# Altium schematic symbol library MCU_ST_STM32F7.SchLib: 155 symbols (part 2 of 6)
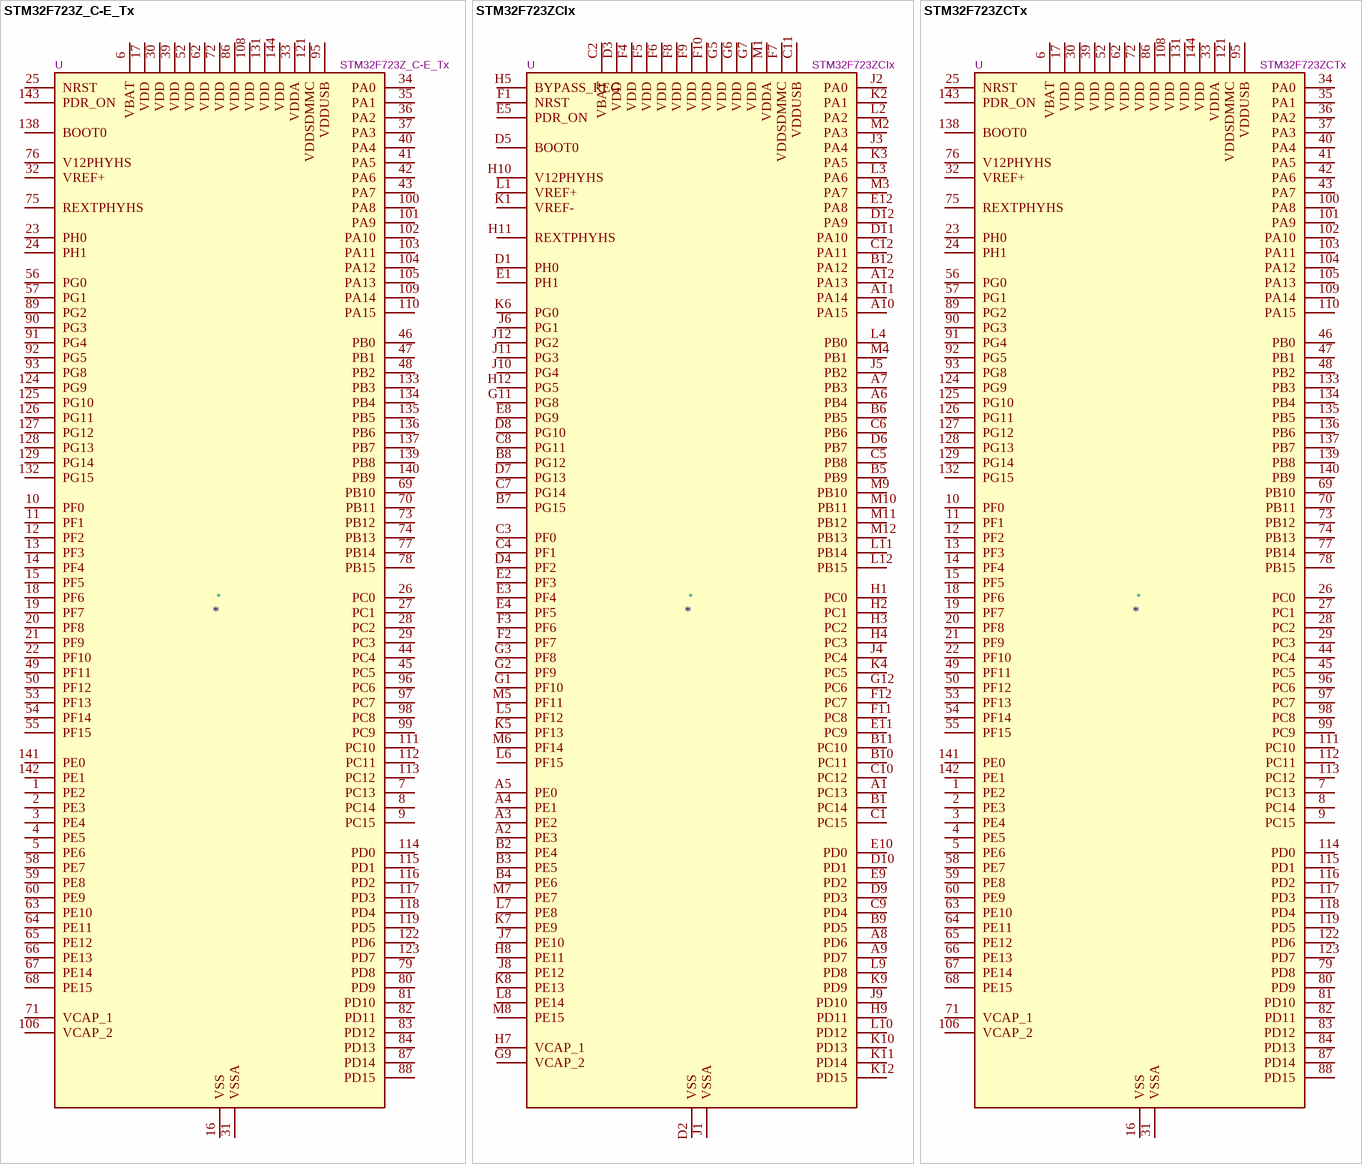
[diagram p48: symbols STM32F723Z_C-E_Tx to STM32F723ZCTx]

## STM32F723Z_C-E_Tx
designator *  value STM32F723Z_C-E_Tx  Reference: U
ki_keywords: Arm Cortex-M7 STM32F7 STM32F7x3; ki_description: STMicroelectronics Arm Cortex-M7 MCU, 256-512KB flash, 256KB RAM, 216 MHz, 1.7-3.6V, 112 GPIO, LQFP144; ki_fp_filters: LQFP*20x20mm*P0.5mm*; Footprint: Package_QFP:LQFP-144_20x20mm_P0.5mm; Datasheet: https://www.st.com/resource/en/datasheet/stm32f723zc.pdf
pins: 1 PE2, 2 PE3, 3 PE4, 4 PE5, 5 PE6, 6 VBAT, 7 PC13, 8 PC14, 9 PC15, 10 PF0, 11 PF1, 12 PF2, 13 PF3, 14 PF4, 15 PF5, 16 VSS, 17 VDD, 18 PF6, 19 PF7, 20 PF8, 21 PF9, 22 PF10, 23 PH0, 24 PH1, 25 NRST, 26 PC0, 27 PC1, 28 PC2, 29 PC3, 30 VDD, 31 VSSA, 32 VREF+, 33 VDDA, 34 PA0, 35 PA1, 36 PA2, 37 PA3, 38 VSS hidden, 39 VDD, 40 PA4, 41 PA5, 42 PA6, 43 PA7, 44 PC4, 45 PC5, 46 PB0, 47 PB1, 48 PB2, 49 PF11, 50 PF12, 51 VSS hidden, 52 VDD, 53 PF13, 54 PF14, 55 PF15, 56 PG0, 57 PG1, 58 PE7, 59 PE8, 60 PE9, 61 VSS hidden, 62 VDD, 63 PE10, 64 PE11, 65 PE12, 66 PE13, 67 PE14, 68 PE15, 69 PB10, 70 PB11, 71 VCAP_1, 72 VDD, 73 PB12, 74 PB13, 75 REXTPHYHS, 76 V12PHYHS, 77 PB14, 78 PB15, 79 PD8, 80 PD9, 81 PD10, 82 PD11, 83 PD12, 84 PD13, 85 VSS hidden, 86 VDD, 87 PD14, 88 PD15, 89 PG2, 90 PG3, 91 PG4, 92 PG5, 93 PG8, 94 VSS hidden, 95 VDDUSB, 96 PC6, 97 PC7, 98 PC8, 99 PC9, 100 PA8, 101 PA9, 102 PA10, 103 PA11, 104 PA12, 105 PA13, 106 VCAP_2, 107 VSS hidden, 108 VDD, 109 PA14, 110 PA15, 111 PC10, 112 PC11, 113 PC12, 114 PD0, 115 PD1, 116 PD2, 117 PD3, 118 PD4, 119 PD5, 120 VSS hidden, 121 VDDSDMMC, 122 PD6, 123 PD7, 124 PG9, 125 PG10, 126 PG11, 127 PG12, 128 PG13, 129 PG14, 130 VSS hidden, 131 VDD, 132 PG15, 133 PB3, 134 PB4, 135 PB5, 136 PB6, 137 PB7, 138 BOOT0, 139 PB8, 140 PB9, 141 PE0, 142 PE1, 143 PDR_ON, 144 VDD

## STM32F723ZCIx
designator *  value STM32F723ZCIx  Reference: U
ki_keywords: Arm Cortex-M7 STM32F7 STM32F7x3; ki_description: STMicroelectronics Arm Cortex-M7 MCU, 256KB flash, 256KB RAM, 216 MHz, 1.7-3.6V, 112 GPIO, UFBGA144; ki_fp_filters: *UFBGA*7x7mm*Layout12x12*P0.5mm*; Footprint: Package_BGA:UFBGA-144_7x7mm_Layout12x12_P0.5mm; Datasheet: https://www.st.com/resource/en/datasheet/stm32f723zc.pdf
pins: A1 PC13, A2 PE3, A3 PE2, A4 PE1, A5 PE0, A6 PB4, A7 PB3, A8 PD6, A9 PD7, A10 PA15, A11 PA14, A12 PA13, B1 PC14, B2 PE4, B3 PE5, B4 PE6, B5 PB9, B6 PB5, B7 PG15, B8 PG12, B9 PD5, B10 PC11, B11 PC10, B12 PA12, C1 PC15, C2 VBAT, C3 PF0, C4 PF1, C5 PB8, C6 PB6, C7 PG14, C8 PG11, C9 PD4, C10 PC12, C11 VDDUSB, C12 PA11, D1 PH0, D2 VSS, D3 VDD, D4 PF2, D5 BOOT0, D6 PB7, D7 PG13, D8 PG10, D9 PD3, D10 PD1, D11 PA10, D12 PA9, E1 PH1, E2 PF3, E3 PF4, E4 PF5, E5 PDR_ON, E6 VSS hidden, E7 VSS hidden, E8 PG9, E9 PD2, E10 PD0, E11 PC9, E12 PA8, F1 NRST, F2 PF7, F3 PF6, F4 VDD, F5 VDD, F6 VDD, F7 VDDSDMMC, F8 VDD, F9 VDD, F10 VDD, F11 PC8, F12 PC7, G1 PF10, G2 PF9, G3 PF8, G4 VSS hidden, G5 VDD, G6 VDD, G7 VDD, G8 VSS hidden, G9 VCAP_2, G10 VSS hidden, G11 PG8, G12 PC6, H1 PC0, H2 PC1, H3 PC2, H4 PC3, H5 BYPASS_REG, H6 VSS hidden, H7 VCAP_1, H8 PE11, H9 PD11, H10 V12PHYHS, H11 REXTPHYHS, H12 PG5, J1 VSSA, J2 PA0, J3 PA4, J4 PC4, J5 PB2, J6 PG1, J7 PE10, J8 PE12, J9 PD10, J10 PG4, J11 PG3, J12 PG2, K1 VREF-, K2 PA1, K3 PA5, K4 PC5, K5 PF13, K6 PG0, K7 PE9, K8 PE13, K9 PD9, K10 PD13, K11 PD14, K12 PD15, L1 VREF+, L2 PA2, L3 PA6, L4 PB0, L5 PF12, L6 PF15, L7 PE8, L8 PE14, L9 PD8, L10 PD12, L11 PB14, L12 PB15, M1 VDDA, M2 PA3, M3 PA7, M4 PB1, M5 PF11, M6 PF14, M7 PE7, M8 PE15, M9 PB10, M10 PB11, M11 PB12, M12 PB13

## STM32F723ZCTx
designator *  value STM32F723ZCTx  Reference: U
ki_keywords: Arm Cortex-M7 STM32F7 STM32F7x3; ki_description: STMicroelectronics Arm Cortex-M7 MCU, 256KB flash, 256KB RAM, 216 MHz, 1.7-3.6V, 112 GPIO, LQFP144; ki_fp_filters: LQFP*20x20mm*P0.5mm*; Footprint: Package_QFP:LQFP-144_20x20mm_P0.5mm; Datasheet: https://www.st.com/resource/en/datasheet/stm32f723zc.pdf
pins: 1 PE2, 2 PE3, 3 PE4, 4 PE5, 5 PE6, 6 VBAT, 7 PC13, 8 PC14, 9 PC15, 10 PF0, 11 PF1, 12 PF2, 13 PF3, 14 PF4, 15 PF5, 16 VSS, 17 VDD, 18 PF6, 19 PF7, 20 PF8, 21 PF9, 22 PF10, 23 PH0, 24 PH1, 25 NRST, 26 PC0, 27 PC1, 28 PC2, 29 PC3, 30 VDD, 31 VSSA, 32 VREF+, 33 VDDA, 34 PA0, 35 PA1, 36 PA2, 37 PA3, 38 VSS hidden, 39 VDD, 40 PA4, 41 PA5, 42 PA6, 43 PA7, 44 PC4, 45 PC5, 46 PB0, 47 PB1, 48 PB2, 49 PF11, 50 PF12, 51 VSS hidden, 52 VDD, 53 PF13, 54 PF14, 55 PF15, 56 PG0, 57 PG1, 58 PE7, 59 PE8, 60 PE9, 61 VSS hidden, 62 VDD, 63 PE10, 64 PE11, 65 PE12, 66 PE13, 67 PE14, 68 PE15, 69 PB10, 70 PB11, 71 VCAP_1, 72 VDD, 73 PB12, 74 PB13, 75 REXTPHYHS, 76 V12PHYHS, 77 PB14, 78 PB15, 79 PD8, 80 PD9, 81 PD10, 82 PD11, 83 PD12, 84 PD13, 85 VSS hidden, 86 VDD, 87 PD14, 88 PD15, 89 PG2, 90 PG3, 91 PG4, 92 PG5, 93 PG8, 94 VSS hidden, 95 VDDUSB, 96 PC6, 97 PC7, 98 PC8, 99 PC9, 100 PA8, 101 PA9, 102 PA10, 103 PA11, 104 PA12, 105 PA13, 106 VCAP_2, 107 VSS hidden, 108 VDD, 109 PA14, 110 PA15, 111 PC10, 112 PC11, 113 PC12, 114 PD0, 115 PD1, 116 PD2, 117 PD3, 118 PD4, 119 PD5, 120 VSS hidden, 121 VDDSDMMC, 122 PD6, 123 PD7, 124 PG9, 125 PG10, 126 PG11, 127 PG12, 128 PG13, 129 PG14, 130 VSS hidden, 131 VDD, 132 PG15, 133 PB3, 134 PB4, 135 PB5, 136 PB6, 137 PB7, 138 BOOT0, 139 PB8, 140 PB9, 141 PE0, 142 PE1, 143 PDR_ON, 144 VDD

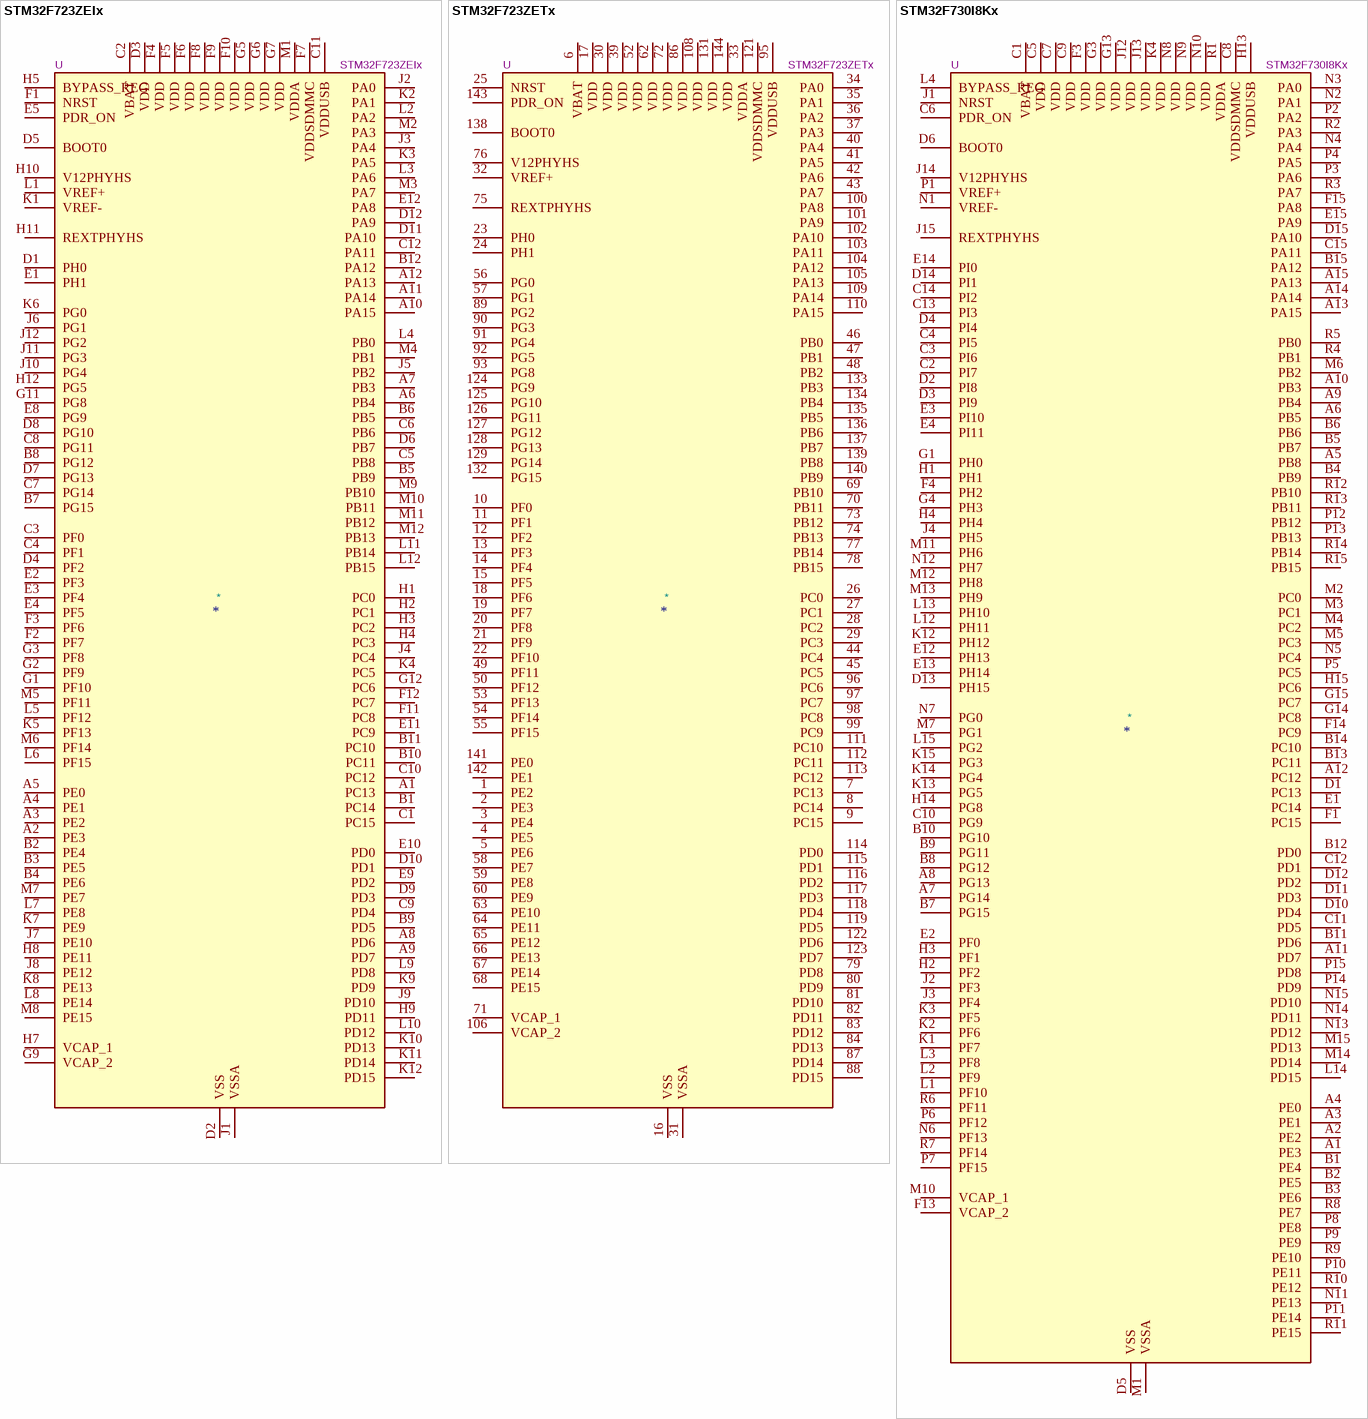
[diagram p9: symbols STM32F723ZEIx to STM32F730I8Kx]

## STM32F723ZEIx
designator *  value STM32F723ZEIx  Reference: U
ki_keywords: Arm Cortex-M7 STM32F7 STM32F7x3; ki_description: STMicroelectronics Arm Cortex-M7 MCU, 512KB flash, 256KB RAM, 216 MHz, 1.7-3.6V, 112 GPIO, UFBGA144; ki_fp_filters: *UFBGA*7x7mm*Layout12x12*P0.5mm*; Footprint: Package_BGA:UFBGA-144_7x7mm_Layout12x12_P0.5mm; Datasheet: https://www.st.com/resource/en/datasheet/stm32f723ze.pdf
pins: A1 PC13, A2 PE3, A3 PE2, A4 PE1, A5 PE0, A6 PB4, A7 PB3, A8 PD6, A9 PD7, A10 PA15, A11 PA14, A12 PA13, B1 PC14, B2 PE4, B3 PE5, B4 PE6, B5 PB9, B6 PB5, B7 PG15, B8 PG12, B9 PD5, B10 PC11, B11 PC10, B12 PA12, C1 PC15, C2 VBAT, C3 PF0, C4 PF1, C5 PB8, C6 PB6, C7 PG14, C8 PG11, C9 PD4, C10 PC12, C11 VDDUSB, C12 PA11, D1 PH0, D2 VSS, D3 VDD, D4 PF2, D5 BOOT0, D6 PB7, D7 PG13, D8 PG10, D9 PD3, D10 PD1, D11 PA10, D12 PA9, E1 PH1, E2 PF3, E3 PF4, E4 PF5, E5 PDR_ON, E6 VSS hidden, E7 VSS hidden, E8 PG9, E9 PD2, E10 PD0, E11 PC9, E12 PA8, F1 NRST, F2 PF7, F3 PF6, F4 VDD, F5 VDD, F6 VDD, F7 VDDSDMMC, F8 VDD, F9 VDD, F10 VDD, F11 PC8, F12 PC7, G1 PF10, G2 PF9, G3 PF8, G4 VSS hidden, G5 VDD, G6 VDD, G7 VDD, G8 VSS hidden, G9 VCAP_2, G10 VSS hidden, G11 PG8, G12 PC6, H1 PC0, H2 PC1, H3 PC2, H4 PC3, H5 BYPASS_REG, H6 VSS hidden, H7 VCAP_1, H8 PE11, H9 PD11, H10 V12PHYHS, H11 REXTPHYHS, H12 PG5, J1 VSSA, J2 PA0, J3 PA4, J4 PC4, J5 PB2, J6 PG1, J7 PE10, J8 PE12, J9 PD10, J10 PG4, J11 PG3, J12 PG2, K1 VREF-, K2 PA1, K3 PA5, K4 PC5, K5 PF13, K6 PG0, K7 PE9, K8 PE13, K9 PD9, K10 PD13, K11 PD14, K12 PD15, L1 VREF+, L2 PA2, L3 PA6, L4 PB0, L5 PF12, L6 PF15, L7 PE8, L8 PE14, L9 PD8, L10 PD12, L11 PB14, L12 PB15, M1 VDDA, M2 PA3, M3 PA7, M4 PB1, M5 PF11, M6 PF14, M7 PE7, M8 PE15, M9 PB10, M10 PB11, M11 PB12, M12 PB13

## STM32F723ZETx
designator *  value STM32F723ZETx  Reference: U
ki_keywords: Arm Cortex-M7 STM32F7 STM32F7x3; ki_description: STMicroelectronics Arm Cortex-M7 MCU, 512KB flash, 256KB RAM, 216 MHz, 1.7-3.6V, 112 GPIO, LQFP144; ki_fp_filters: LQFP*20x20mm*P0.5mm*; Footprint: Package_QFP:LQFP-144_20x20mm_P0.5mm; Datasheet: https://www.st.com/resource/en/datasheet/stm32f723ze.pdf
pins: 1 PE2, 2 PE3, 3 PE4, 4 PE5, 5 PE6, 6 VBAT, 7 PC13, 8 PC14, 9 PC15, 10 PF0, 11 PF1, 12 PF2, 13 PF3, 14 PF4, 15 PF5, 16 VSS, 17 VDD, 18 PF6, 19 PF7, 20 PF8, 21 PF9, 22 PF10, 23 PH0, 24 PH1, 25 NRST, 26 PC0, 27 PC1, 28 PC2, 29 PC3, 30 VDD, 31 VSSA, 32 VREF+, 33 VDDA, 34 PA0, 35 PA1, 36 PA2, 37 PA3, 38 VSS hidden, 39 VDD, 40 PA4, 41 PA5, 42 PA6, 43 PA7, 44 PC4, 45 PC5, 46 PB0, 47 PB1, 48 PB2, 49 PF11, 50 PF12, 51 VSS hidden, 52 VDD, 53 PF13, 54 PF14, 55 PF15, 56 PG0, 57 PG1, 58 PE7, 59 PE8, 60 PE9, 61 VSS hidden, 62 VDD, 63 PE10, 64 PE11, 65 PE12, 66 PE13, 67 PE14, 68 PE15, 69 PB10, 70 PB11, 71 VCAP_1, 72 VDD, 73 PB12, 74 PB13, 75 REXTPHYHS, 76 V12PHYHS, 77 PB14, 78 PB15, 79 PD8, 80 PD9, 81 PD10, 82 PD11, 83 PD12, 84 PD13, 85 VSS hidden, 86 VDD, 87 PD14, 88 PD15, 89 PG2, 90 PG3, 91 PG4, 92 PG5, 93 PG8, 94 VSS hidden, 95 VDDUSB, 96 PC6, 97 PC7, 98 PC8, 99 PC9, 100 PA8, 101 PA9, 102 PA10, 103 PA11, 104 PA12, 105 PA13, 106 VCAP_2, 107 VSS hidden, 108 VDD, 109 PA14, 110 PA15, 111 PC10, 112 PC11, 113 PC12, 114 PD0, 115 PD1, 116 PD2, 117 PD3, 118 PD4, 119 PD5, 120 VSS hidden, 121 VDDSDMMC, 122 PD6, 123 PD7, 124 PG9, 125 PG10, 126 PG11, 127 PG12, 128 PG13, 129 PG14, 130 VSS hidden, 131 VDD, 132 PG15, 133 PB3, 134 PB4, 135 PB5, 136 PB6, 137 PB7, 138 BOOT0, 139 PB8, 140 PB9, 141 PE0, 142 PE1, 143 PDR_ON, 144 VDD

## STM32F730I8Kx
designator *  value STM32F730I8Kx  Reference: U
ki_keywords: Arm Cortex-M7 STM32F7 STM32F7x0 Value line; ki_description: STMicroelectronics Arm Cortex-M7 MCU, 64KB flash, 256KB RAM, 216 MHz, 1.7-3.6V, 138 GPIO, UFBGA176; ki_fp_filters: *UFBGA*10x10mm*Layout15x15*P0.65mm*; Footprint: Package_BGA:UFBGA-201_10x10mm_Layout15x15_P0.65mm; Datasheet: https://www.st.com/resource/en/datasheet/stm32f730i8.pdf
pins: A1 PE3, A2 PE2, A3 PE1, A4 PE0, A5 PB8, A6 PB5, A7 PG14, A8 PG13, A9 PB4, A10 PB3, A11 PD7, A12 PC12, A13 PA15, A14 PA14, A15 PA13, B1 PE4, B2 PE5, B3 PE6, B4 PB9, B5 PB7, B6 PB6, B7 PG15, B8 PG12, B9 PG11, B10 PG10, B11 PD6, B12 PD0, B13 PC11, B14 PC10, B15 PA12, C1 VBAT, C2 PI7, C3 PI6, C4 PI5, C5 VDD, C6 PDR_ON, C7 VDD, C8 VDDSDMMC, C9 VDD, C10 PG9, C11 PD5, C12 PD1, C13 PI3, C14 PI2, C15 PA11, D1 PC13, D2 PI8, D3 PI9, D4 PI4, D5 VSS, D6 BOOT0, D7 VSS hidden, D8 VSS hidden, D9 VSS hidden, D10 PD4, D11 PD3, D12 PD2, D13 PH15, D14 PI1, D15 PA10, E1 PC14, E2 PF0, E3 PI10, E4 PI11, E12 PH13, E13 PH14, E14 PI0, E15 PA9, F1 PC15, F2 VSS hidden, F3 VDD, F4 PH2, F6 VSS hidden, F7 VSS hidden, F8 VSS hidden, F9 VSS hidden, F10 VSS hidden, F12 VSS hidden, F13 VCAP_2, F14 PC9, F15 PA8, G1 PH0, G2 VSS hidden, G3 VDD, G4 PH3, G6 VSS hidden, G7 VSS hidden, G8 VSS hidden, G9 VSS hidden, G10 VSS hidden, G12 VSS hidden, G13 VDD, G14 PC8, G15 PC7, H1 PH1, H2 PF2, H3 PF1, H4 PH4, H6 VSS hidden, H7 VSS hidden, H8 VSS hidden, H9 VSS hidden, H10 VSS hidden, H12 VSS hidden, H13 VDDUSB, H14 PG8, H15 PC6, J1 NRST, J2 PF3, J3 PF4, J4 PH5, J6 VSS hidden, J7 VSS hidden, J8 VSS hidden, J9 VSS hidden, J10 VSS hidden, J12 VDD, J13 VDD, J14 V12PHYHS, J15 REXTPHYHS, K1 PF7, K2 PF6, K3 PF5, K4 VDD, K6 VSS hidden, K7 VSS hidden, K8 VSS hidden, K9 VSS hidden, K10 VSS hidden, K12 PH12, K13 PG5, K14 PG4, K15 PG3, L1 PF10, L2 PF9, L3 PF8, L4 BYPASS_REG, L12 PH11, L13 PH10, L14 PD15, L15 PG2, M1 VSSA, M2 PC0, M3 PC1, M4 PC2, M5 PC3, M6 PB2, M7 PG1, M8 VSS hidden, M9 VSS hidden, M10 VCAP_1, M11 PH6, M12 PH8, M13 PH9, M14 PD14, M15 PD13, N1 VREF-, N2 PA1, N3 PA0, N4 PA4, N5 PC4, N6 PF13, N7 PG0, N8 VDD, N9 VDD, N10 VDD, N11 PE13, N12 PH7, N13 PD12, N14 PD11, N15 PD10, P1 VREF+, P2 PA2, P3 PA6, P4 PA5, P5 PC5, P6 PF12, P7 PF15, P8 PE8, P9 PE9, P10 PE11, P11 PE14, P12 PB12, P13 PB13, P14 PD9, P15 PD8, R1 VDDA, R2 PA3, R3 PA7, R4 PB1, R5 PB0, R6 PF11, R7 PF14, R8 PE7, R9 PE10, R10 PE12, R11 PE15, R12 PB10, R13 PB11, R14 PB14, R15 PB15

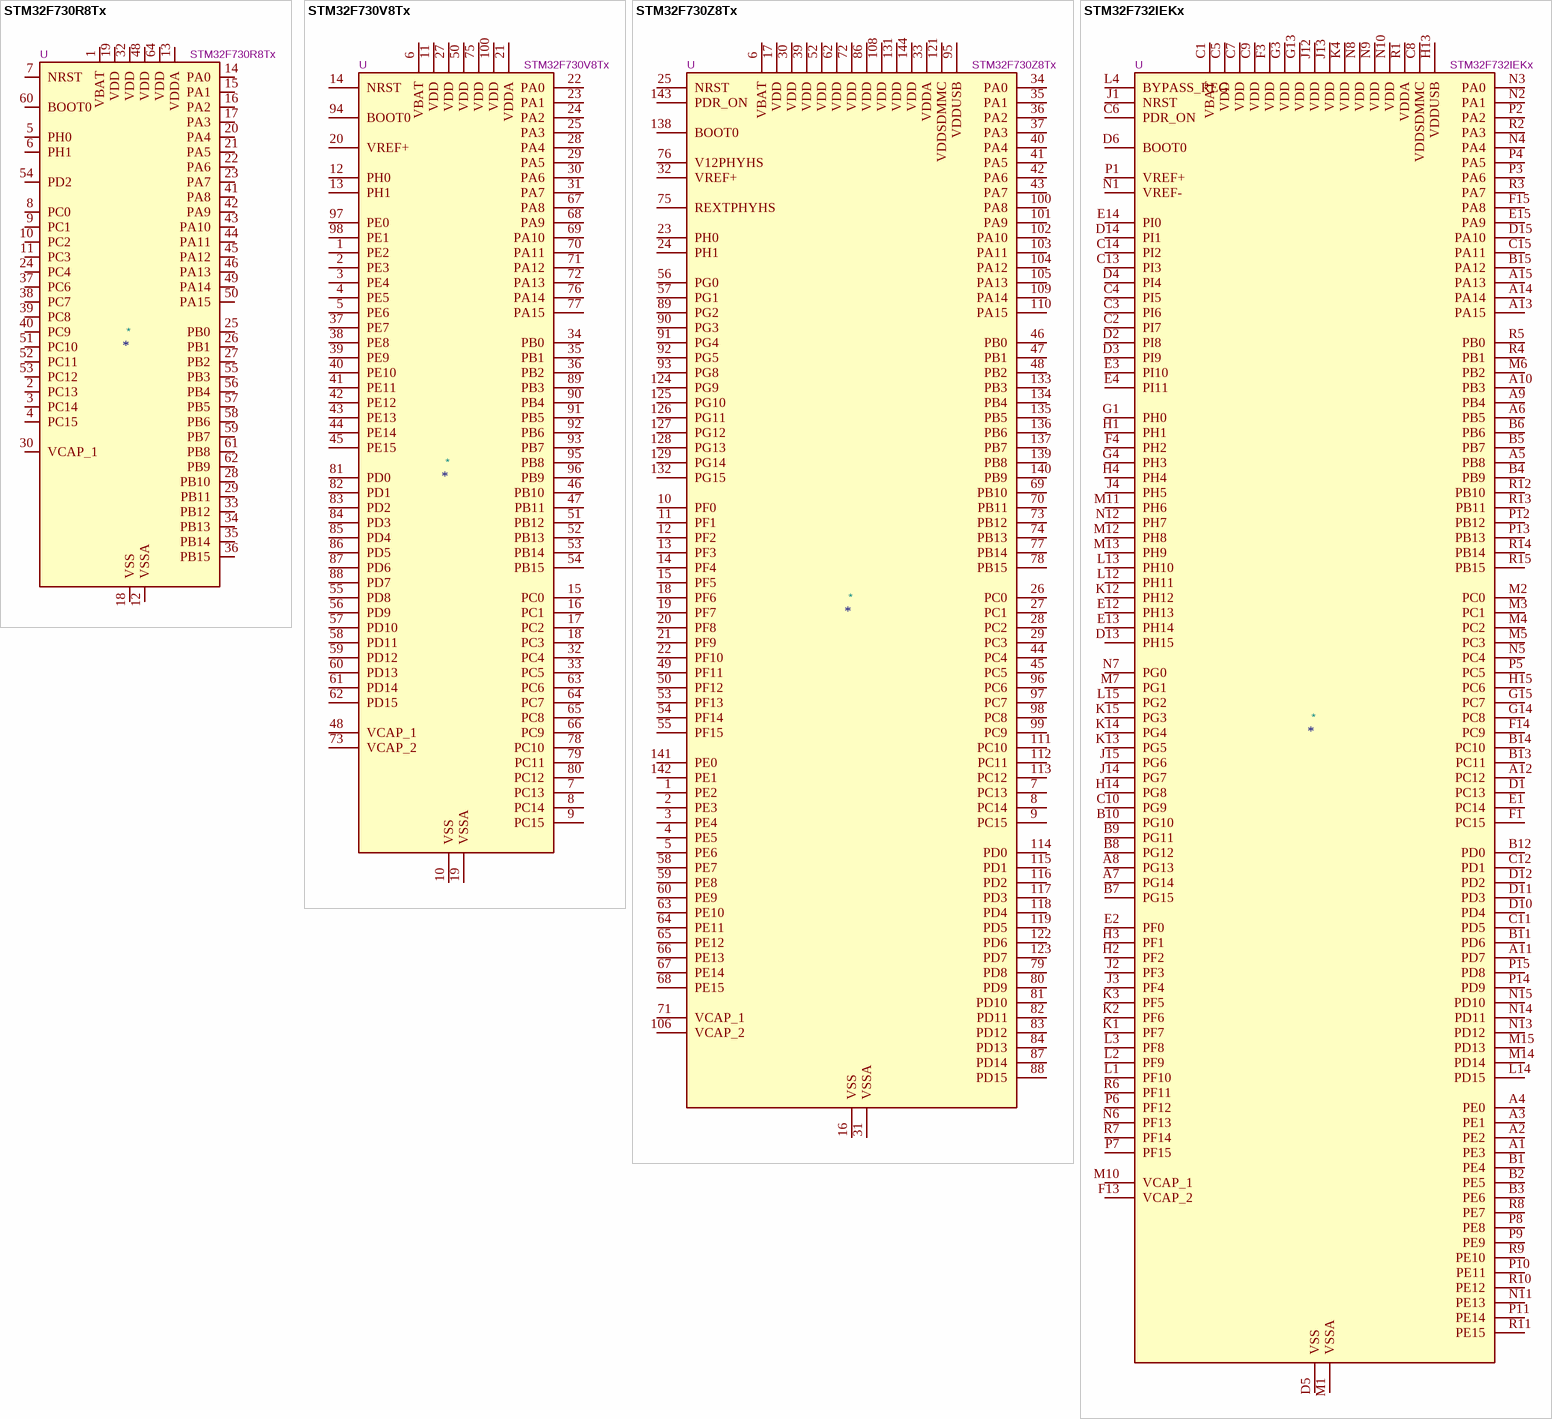
[diagram p10: symbols STM32F730R8Tx to STM32F732IEKx]

## STM32F730R8Tx
designator *  value STM32F730R8Tx  Reference: U
ki_keywords: Arm Cortex-M7 STM32F7 STM32F7x0 Value line; ki_description: STMicroelectronics Arm Cortex-M7 MCU, 64KB flash, 256KB RAM, 216 MHz, 1.7-3.6V, 50 GPIO, LQFP64; ki_fp_filters: LQFP*10x10mm*P0.5mm*; Footprint: Package_QFP:LQFP-64_10x10mm_P0.5mm; Datasheet: https://www.st.com/resource/en/datasheet/stm32f730r8.pdf
pins: 1 VBAT, 2 PC13, 3 PC14, 4 PC15, 5 PH0, 6 PH1, 7 NRST, 8 PC0, 9 PC1, 10 PC2, 11 PC3, 12 VSSA, 13 VDDA, 14 PA0, 15 PA1, 16 PA2, 17 PA3, 18 VSS, 19 VDD, 20 PA4, 21 PA5, 22 PA6, 23 PA7, 24 PC4, 25 PB0, 26 PB1, 27 PB2, 28 PB10, 29 PB11, 30 VCAP_1, 31 VSS hidden, 32 VDD, 33 PB12, 34 PB13, 35 PB14, 36 PB15, 37 PC6, 38 PC7, 39 PC8, 40 PC9, 41 PA8, 42 PA9, 43 PA10, 44 PA11, 45 PA12, 46 PA13, 47 VSS hidden, 48 VDD, 49 PA14, 50 PA15, 51 PC10, 52 PC11, 53 PC12, 54 PD2, 55 PB3, 56 PB4, 57 PB5, 58 PB6, 59 PB7, 60 BOOT0, 61 PB8, 62 PB9, 63 VSS hidden, 64 VDD

## STM32F730V8Tx
designator *  value STM32F730V8Tx  Reference: U
ki_keywords: Arm Cortex-M7 STM32F7 STM32F7x0 Value line; ki_description: STMicroelectronics Arm Cortex-M7 MCU, 64KB flash, 256KB RAM, 216 MHz, 1.7-3.6V, 82 GPIO, LQFP100; ki_fp_filters: LQFP*14x14mm*P0.5mm*; Footprint: Package_QFP:LQFP-100_14x14mm_P0.5mm; Datasheet: https://www.st.com/resource/en/datasheet/stm32f730v8.pdf
pins: 1 PE2, 2 PE3, 3 PE4, 4 PE5, 5 PE6, 6 VBAT, 7 PC13, 8 PC14, 9 PC15, 10 VSS, 11 VDD, 12 PH0, 13 PH1, 14 NRST, 15 PC0, 16 PC1, 17 PC2, 18 PC3, 19 VSSA, 20 VREF+, 21 VDDA, 22 PA0, 23 PA1, 24 PA2, 25 PA3, 26 VSS hidden, 27 VDD, 28 PA4, 29 PA5, 30 PA6, 31 PA7, 32 PC4, 33 PC5, 34 PB0, 35 PB1, 36 PB2, 37 PE7, 38 PE8, 39 PE9, 40 PE10, 41 PE11, 42 PE12, 43 PE13, 44 PE14, 45 PE15, 46 PB10, 47 PB11, 48 VCAP_1, 49 VSS hidden, 50 VDD, 51 PB12, 52 PB13, 53 PB14, 54 PB15, 55 PD8, 56 PD9, 57 PD10, 58 PD11, 59 PD12, 60 PD13, 61 PD14, 62 PD15, 63 PC6, 64 PC7, 65 PC8, 66 PC9, 67 PA8, 68 PA9, 69 PA10, 70 PA11, 71 PA12, 72 PA13, 73 VCAP_2, 74 VSS hidden, 75 VDD, 76 PA14, 77 PA15, 78 PC10, 79 PC11, 80 PC12, 81 PD0, 82 PD1, 83 PD2, 84 PD3, 85 PD4, 86 PD5, 87 PD6, 88 PD7, 89 PB3, 90 PB4, 91 PB5, 92 PB6, 93 PB7, 94 BOOT0, 95 PB8, 96 PB9, 97 PE0, 98 PE1, 99 VSS hidden, 100 VDD

## STM32F730Z8Tx
designator *  value STM32F730Z8Tx  Reference: U
ki_keywords: Arm Cortex-M7 STM32F7 STM32F7x0 Value line; ki_description: STMicroelectronics Arm Cortex-M7 MCU, 64KB flash, 256KB RAM, 216 MHz, 1.7-3.6V, 112 GPIO, LQFP144; ki_fp_filters: LQFP*20x20mm*P0.5mm*; Footprint: Package_QFP:LQFP-144_20x20mm_P0.5mm; Datasheet: https://www.st.com/resource/en/datasheet/stm32f730z8.pdf
pins: 1 PE2, 2 PE3, 3 PE4, 4 PE5, 5 PE6, 6 VBAT, 7 PC13, 8 PC14, 9 PC15, 10 PF0, 11 PF1, 12 PF2, 13 PF3, 14 PF4, 15 PF5, 16 VSS, 17 VDD, 18 PF6, 19 PF7, 20 PF8, 21 PF9, 22 PF10, 23 PH0, 24 PH1, 25 NRST, 26 PC0, 27 PC1, 28 PC2, 29 PC3, 30 VDD, 31 VSSA, 32 VREF+, 33 VDDA, 34 PA0, 35 PA1, 36 PA2, 37 PA3, 38 VSS hidden, 39 VDD, 40 PA4, 41 PA5, 42 PA6, 43 PA7, 44 PC4, 45 PC5, 46 PB0, 47 PB1, 48 PB2, 49 PF11, 50 PF12, 51 VSS hidden, 52 VDD, 53 PF13, 54 PF14, 55 PF15, 56 PG0, 57 PG1, 58 PE7, 59 PE8, 60 PE9, 61 VSS hidden, 62 VDD, 63 PE10, 64 PE11, 65 PE12, 66 PE13, 67 PE14, 68 PE15, 69 PB10, 70 PB11, 71 VCAP_1, 72 VDD, 73 PB12, 74 PB13, 75 REXTPHYHS, 76 V12PHYHS, 77 PB14, 78 PB15, 79 PD8, 80 PD9, 81 PD10, 82 PD11, 83 PD12, 84 PD13, 85 VSS hidden, 86 VDD, 87 PD14, 88 PD15, 89 PG2, 90 PG3, 91 PG4, 92 PG5, 93 PG8, 94 VSS hidden, 95 VDDUSB, 96 PC6, 97 PC7, 98 PC8, 99 PC9, 100 PA8, 101 PA9, 102 PA10, 103 PA11, 104 PA12, 105 PA13, 106 VCAP_2, 107 VSS hidden, 108 VDD, 109 PA14, 110 PA15, 111 PC10, 112 PC11, 113 PC12, 114 PD0, 115 PD1, 116 PD2, 117 PD3, 118 PD4, 119 PD5, 120 VSS hidden, 121 VDDSDMMC, 122 PD6, 123 PD7, 124 PG9, 125 PG10, 126 PG11, 127 PG12, 128 PG13, 129 PG14, 130 VSS hidden, 131 VDD, 132 PG15, 133 PB3, 134 PB4, 135 PB5, 136 PB6, 137 PB7, 138 BOOT0, 139 PB8, 140 PB9, 141 PE0, 142 PE1, 143 PDR_ON, 144 VDD

## STM32F732IEKx
designator *  value STM32F732IEKx  Reference: U
ki_keywords: Arm Cortex-M7 STM32F7 STM32F7x2; ki_description: STMicroelectronics Arm Cortex-M7 MCU, 512KB flash, 256KB RAM, 216 MHz, 1.7-3.6V, 140 GPIO, UFBGA176; ki_fp_filters: *UFBGA*10x10mm*Layout15x15*P0.65mm*; Footprint: Package_BGA:UFBGA-201_10x10mm_Layout15x15_P0.65mm; Datasheet: https://www.st.com/resource/en/datasheet/stm32f732ie.pdf
pins: A1 PE3, A2 PE2, A3 PE1, A4 PE0, A5 PB8, A6 PB5, A7 PG14, A8 PG13, A9 PB4, A10 PB3, A11 PD7, A12 PC12, A13 PA15, A14 PA14, A15 PA13, B1 PE4, B2 PE5, B3 PE6, B4 PB9, B5 PB7, B6 PB6, B7 PG15, B8 PG12, B9 PG11, B10 PG10, B11 PD6, B12 PD0, B13 PC11, B14 PC10, B15 PA12, C1 VBAT, C2 PI7, C3 PI6, C4 PI5, C5 VDD, C6 PDR_ON, C7 VDD, C8 VDDSDMMC, C9 VDD, C10 PG9, C11 PD5, C12 PD1, C13 PI3, C14 PI2, C15 PA11, D1 PC13, D2 PI8, D3 PI9, D4 PI4, D5 VSS, D6 BOOT0, D7 VSS hidden, D8 VSS hidden, D9 VSS hidden, D10 PD4, D11 PD3, D12 PD2, D13 PH15, D14 PI1, D15 PA10, E1 PC14, E2 PF0, E3 PI10, E4 PI11, E12 PH13, E13 PH14, E14 PI0, E15 PA9, F1 PC15, F2 VSS hidden, F3 VDD, F4 PH2, F6 VSS hidden, F7 VSS hidden, F8 VSS hidden, F9 VSS hidden, F10 VSS hidden, F12 VSS hidden, F13 VCAP_2, F14 PC9, F15 PA8, G1 PH0, G2 VSS hidden, G3 VDD, G4 PH3, G6 VSS hidden, G7 VSS hidden, G8 VSS hidden, G9 VSS hidden, G10 VSS hidden, G12 VSS hidden, G13 VDD, G14 PC8, G15 PC7, H1 PH1, H2 PF2, H3 PF1, H4 PH4, H6 VSS hidden, H7 VSS hidden, H8 VSS hidden, H9 VSS hidden, H10 VSS hidden, H12 VSS hidden, H13 VDDUSB, H14 PG8, H15 PC6, J1 NRST, J2 PF3, J3 PF4, J4 PH5, J6 VSS hidden, J7 VSS hidden, J8 VSS hidden, J9 VSS hidden, J10 VSS hidden, J12 VDD, J13 VDD, J14 PG7, J15 PG6, K1 PF7, K2 PF6, K3 PF5, K4 VDD, K6 VSS hidden, K7 VSS hidden, K8 VSS hidden, K9 VSS hidden, K10 VSS hidden, K12 PH12, K13 PG5, K14 PG4, K15 PG3, L1 PF10, L2 PF9, L3 PF8, L4 BYPASS_REG, L12 PH11, L13 PH10, L14 PD15, L15 PG2, M1 VSSA, M2 PC0, M3 PC1, M4 PC2, M5 PC3, M6 PB2, M7 PG1, M8 VSS hidden, M9 VSS hidden, M10 VCAP_1, M11 PH6, M12 PH8, M13 PH9, M14 PD14, M15 PD13, N1 VREF-, N2 PA1, N3 PA0, N4 PA4, N5 PC4, N6 PF13, N7 PG0, N8 VDD, N9 VDD, N10 VDD, N11 PE13, N12 PH7, N13 PD12, N14 PD11, N15 PD10, P1 VREF+, P2 PA2, P3 PA6, P4 PA5, P5 PC5, P6 PF12, P7 PF15, P8 PE8, P9 PE9, P10 PE11, P11 PE14, P12 PB12, P13 PB13, P14 PD9, P15 PD8, R1 VDDA, R2 PA3, R3 PA7, R4 PB1, R5 PB0, R6 PF11, R7 PF14, R8 PE7, R9 PE10, R10 PE12, R11 PE15, R12 PB10, R13 PB11, R14 PB14, R15 PB15

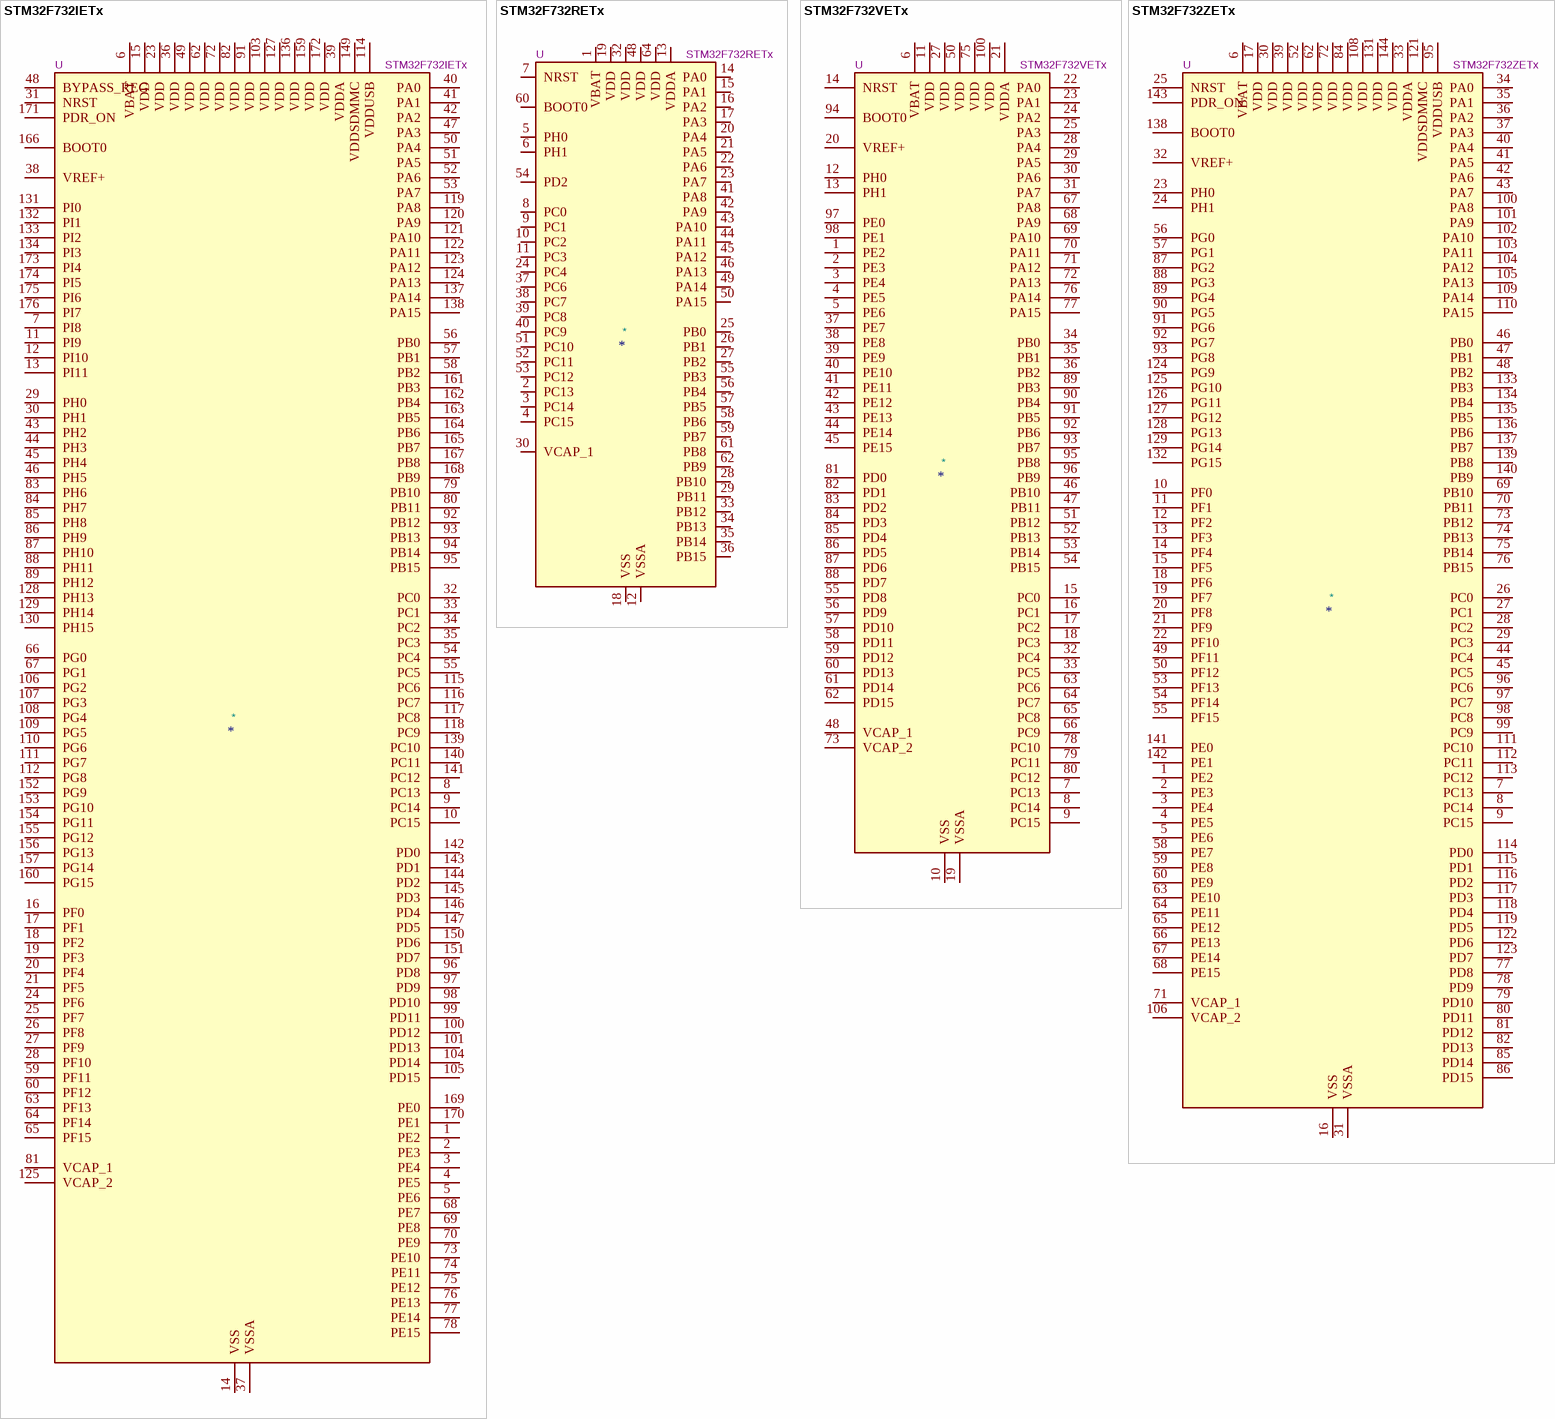
[diagram p11: symbols STM32F732IETx to STM32F732ZETx]

## STM32F732IETx
designator *  value STM32F732IETx  Reference: U
ki_keywords: Arm Cortex-M7 STM32F7 STM32F7x2; ki_description: STMicroelectronics Arm Cortex-M7 MCU, 512KB flash, 256KB RAM, 216 MHz, 1.7-3.6V, 140 GPIO, LQFP176; ki_fp_filters: LQFP*24x24mm*P0.5mm*; Footprint: Package_QFP:LQFP-176_24x24mm_P0.5mm; Datasheet: https://www.st.com/resource/en/datasheet/stm32f732ie.pdf
pins: 1 PE2, 2 PE3, 3 PE4, 4 PE5, 5 PE6, 6 VBAT, 7 PI8, 8 PC13, 9 PC14, 10 PC15, 11 PI9, 12 PI10, 13 PI11, 14 VSS, 15 VDD, 16 PF0, 17 PF1, 18 PF2, 19 PF3, 20 PF4, 21 PF5, 22 VSS hidden, 23 VDD, 24 PF6, 25 PF7, 26 PF8, 27 PF9, 28 PF10, 29 PH0, 30 PH1, 31 NRST, 32 PC0, 33 PC1, 34 PC2, 35 PC3, 36 VDD, 37 VSSA, 38 VREF+, 39 VDDA, 40 PA0, 41 PA1, 42 PA2, 43 PH2, 44 PH3, 45 PH4, 46 PH5, 47 PA3, 48 BYPASS_REG, 49 VDD, 50 PA4, 51 PA5, 52 PA6, 53 PA7, 54 PC4, 55 PC5, 56 PB0, 57 PB1, 58 PB2, 59 PF11, 60 PF12, 61 VSS hidden, 62 VDD, 63 PF13, 64 PF14, 65 PF15, 66 PG0, 67 PG1, 68 PE7, 69 PE8, 70 PE9, 71 VSS hidden, 72 VDD, 73 PE10, 74 PE11, 75 PE12, 76 PE13, 77 PE14, 78 PE15, 79 PB10, 80 PB11, 81 VCAP_1, 82 VDD, 83 PH6, 84 PH7, 85 PH8, 86 PH9, 87 PH10, 88 PH11, 89 PH12, 90 VSS hidden, 91 VDD, 92 PB12, 93 PB13, 94 PB14, 95 PB15, 96 PD8, 97 PD9, 98 PD10, 99 PD11, 100 PD12, 101 PD13, 102 VSS hidden, 103 VDD, 104 PD14, 105 PD15, 106 PG2, 107 PG3, 108 PG4, 109 PG5, 110 PG6, 111 PG7, 112 PG8, 113 VSS hidden, 114 VDDUSB, 115 PC6, 116 PC7, 117 PC8, 118 PC9, 119 PA8, 120 PA9, 121 PA10, 122 PA11, 123 PA12, 124 PA13, 125 VCAP_2, 126 VSS hidden, 127 VDD, 128 PH13, 129 PH14, 130 PH15, 131 PI0, 132 PI1, 133 PI2, 134 PI3, 135 VSS hidden, 136 VDD, 137 PA14, 138 PA15, 139 PC10, 140 PC11, 141 PC12, 142 PD0, 143 PD1, 144 PD2, 145 PD3, 146 PD4, 147 PD5, 148 VSS hidden, 149 VDDSDMMC, 150 PD6, 151 PD7, 152 PG9, 153 PG10, 154 PG11, 155 PG12, 156 PG13, 157 PG14, 158 VSS hidden, 159 VDD, 160 PG15, 161 PB3, 162 PB4, 163 PB5, 164 PB6, 165 PB7, 166 BOOT0, 167 PB8, 168 PB9, 169 PE0, 170 PE1, 171 PDR_ON, 172 VDD, 173 PI4, 174 PI5, 175 PI6, 176 PI7

## STM32F732RETx
designator *  value STM32F732RETx  Reference: U
ki_keywords: Arm Cortex-M7 STM32F7 STM32F7x2; ki_description: STMicroelectronics Arm Cortex-M7 MCU, 512KB flash, 256KB RAM, 216 MHz, 1.7-3.6V, 50 GPIO, LQFP64; ki_fp_filters: LQFP*10x10mm*P0.5mm*; Footprint: Package_QFP:LQFP-64_10x10mm_P0.5mm; Datasheet: https://www.st.com/resource/en/datasheet/stm32f732re.pdf
pins: 1 VBAT, 2 PC13, 3 PC14, 4 PC15, 5 PH0, 6 PH1, 7 NRST, 8 PC0, 9 PC1, 10 PC2, 11 PC3, 12 VSSA, 13 VDDA, 14 PA0, 15 PA1, 16 PA2, 17 PA3, 18 VSS, 19 VDD, 20 PA4, 21 PA5, 22 PA6, 23 PA7, 24 PC4, 25 PB0, 26 PB1, 27 PB2, 28 PB10, 29 PB11, 30 VCAP_1, 31 VSS hidden, 32 VDD, 33 PB12, 34 PB13, 35 PB14, 36 PB15, 37 PC6, 38 PC7, 39 PC8, 40 PC9, 41 PA8, 42 PA9, 43 PA10, 44 PA11, 45 PA12, 46 PA13, 47 VSS hidden, 48 VDD, 49 PA14, 50 PA15, 51 PC10, 52 PC11, 53 PC12, 54 PD2, 55 PB3, 56 PB4, 57 PB5, 58 PB6, 59 PB7, 60 BOOT0, 61 PB8, 62 PB9, 63 VSS hidden, 64 VDD

## STM32F732VETx
designator *  value STM32F732VETx  Reference: U
ki_keywords: Arm Cortex-M7 STM32F7 STM32F7x2; ki_description: STMicroelectronics Arm Cortex-M7 MCU, 512KB flash, 256KB RAM, 216 MHz, 1.7-3.6V, 82 GPIO, LQFP100; ki_fp_filters: LQFP*14x14mm*P0.5mm*; Footprint: Package_QFP:LQFP-100_14x14mm_P0.5mm; Datasheet: https://www.st.com/resource/en/datasheet/stm32f732ve.pdf
pins: 1 PE2, 2 PE3, 3 PE4, 4 PE5, 5 PE6, 6 VBAT, 7 PC13, 8 PC14, 9 PC15, 10 VSS, 11 VDD, 12 PH0, 13 PH1, 14 NRST, 15 PC0, 16 PC1, 17 PC2, 18 PC3, 19 VSSA, 20 VREF+, 21 VDDA, 22 PA0, 23 PA1, 24 PA2, 25 PA3, 26 VSS hidden, 27 VDD, 28 PA4, 29 PA5, 30 PA6, 31 PA7, 32 PC4, 33 PC5, 34 PB0, 35 PB1, 36 PB2, 37 PE7, 38 PE8, 39 PE9, 40 PE10, 41 PE11, 42 PE12, 43 PE13, 44 PE14, 45 PE15, 46 PB10, 47 PB11, 48 VCAP_1, 49 VSS hidden, 50 VDD, 51 PB12, 52 PB13, 53 PB14, 54 PB15, 55 PD8, 56 PD9, 57 PD10, 58 PD11, 59 PD12, 60 PD13, 61 PD14, 62 PD15, 63 PC6, 64 PC7, 65 PC8, 66 PC9, 67 PA8, 68 PA9, 69 PA10, 70 PA11, 71 PA12, 72 PA13, 73 VCAP_2, 74 VSS hidden, 75 VDD, 76 PA14, 77 PA15, 78 PC10, 79 PC11, 80 PC12, 81 PD0, 82 PD1, 83 PD2, 84 PD3, 85 PD4, 86 PD5, 87 PD6, 88 PD7, 89 PB3, 90 PB4, 91 PB5, 92 PB6, 93 PB7, 94 BOOT0, 95 PB8, 96 PB9, 97 PE0, 98 PE1, 99 VSS hidden, 100 VDD

## STM32F732ZETx
designator *  value STM32F732ZETx  Reference: U
ki_keywords: Arm Cortex-M7 STM32F7 STM32F7x2; ki_description: STMicroelectronics Arm Cortex-M7 MCU, 512KB flash, 256KB RAM, 216 MHz, 1.7-3.6V, 114 GPIO, LQFP144; ki_fp_filters: LQFP*20x20mm*P0.5mm*; Footprint: Package_QFP:LQFP-144_20x20mm_P0.5mm; Datasheet: https://www.st.com/resource/en/datasheet/stm32f732ze.pdf
pins: 1 PE2, 2 PE3, 3 PE4, 4 PE5, 5 PE6, 6 VBAT, 7 PC13, 8 PC14, 9 PC15, 10 PF0, 11 PF1, 12 PF2, 13 PF3, 14 PF4, 15 PF5, 16 VSS, 17 VDD, 18 PF6, 19 PF7, 20 PF8, 21 PF9, 22 PF10, 23 PH0, 24 PH1, 25 NRST, 26 PC0, 27 PC1, 28 PC2, 29 PC3, 30 VDD, 31 VSSA, 32 VREF+, 33 VDDA, 34 PA0, 35 PA1, 36 PA2, 37 PA3, 38 VSS hidden, 39 VDD, 40 PA4, 41 PA5, 42 PA6, 43 PA7, 44 PC4, 45 PC5, 46 PB0, 47 PB1, 48 PB2, 49 PF11, 50 PF12, 51 VSS hidden, 52 VDD, 53 PF13, 54 PF14, 55 PF15, 56 PG0, 57 PG1, 58 PE7, 59 PE8, 60 PE9, 61 VSS hidden, 62 VDD, 63 PE10, 64 PE11, 65 PE12, 66 PE13, 67 PE14, 68 PE15, 69 PB10, 70 PB11, 71 VCAP_1, 72 VDD, 73 PB12, 74 PB13, 75 PB14, 76 PB15, 77 PD8, 78 PD9, 79 PD10, 80 PD11, 81 PD12, 82 PD13, 83 VSS hidden, 84 VDD, 85 PD14, 86 PD15, 87 PG2, 88 PG3, 89 PG4, 90 PG5, 91 PG6, 92 PG7, 93 PG8, 94 VSS hidden, 95 VDDUSB, 96 PC6, 97 PC7, 98 PC8, 99 PC9, 100 PA8, 101 PA9, 102 PA10, 103 PA11, 104 PA12, 105 PA13, 106 VCAP_2, 107 VSS hidden, 108 VDD, 109 PA14, 110 PA15, 111 PC10, 112 PC11, 113 PC12, 114 PD0, 115 PD1, 116 PD2, 117 PD3, 118 PD4, 119 PD5, 120 VSS hidden, 121 VDDSDMMC, 122 PD6, 123 PD7, 124 PG9, 125 PG10, 126 PG11, 127 PG12, 128 PG13, 129 PG14, 130 VSS hidden, 131 VDD, 132 PG15, 133 PB3, 134 PB4, 135 PB5, 136 PB6, 137 PB7, 138 BOOT0, 139 PB8, 140 PB9, 141 PE0, 142 PE1, 143 PDR_ON, 144 VDD

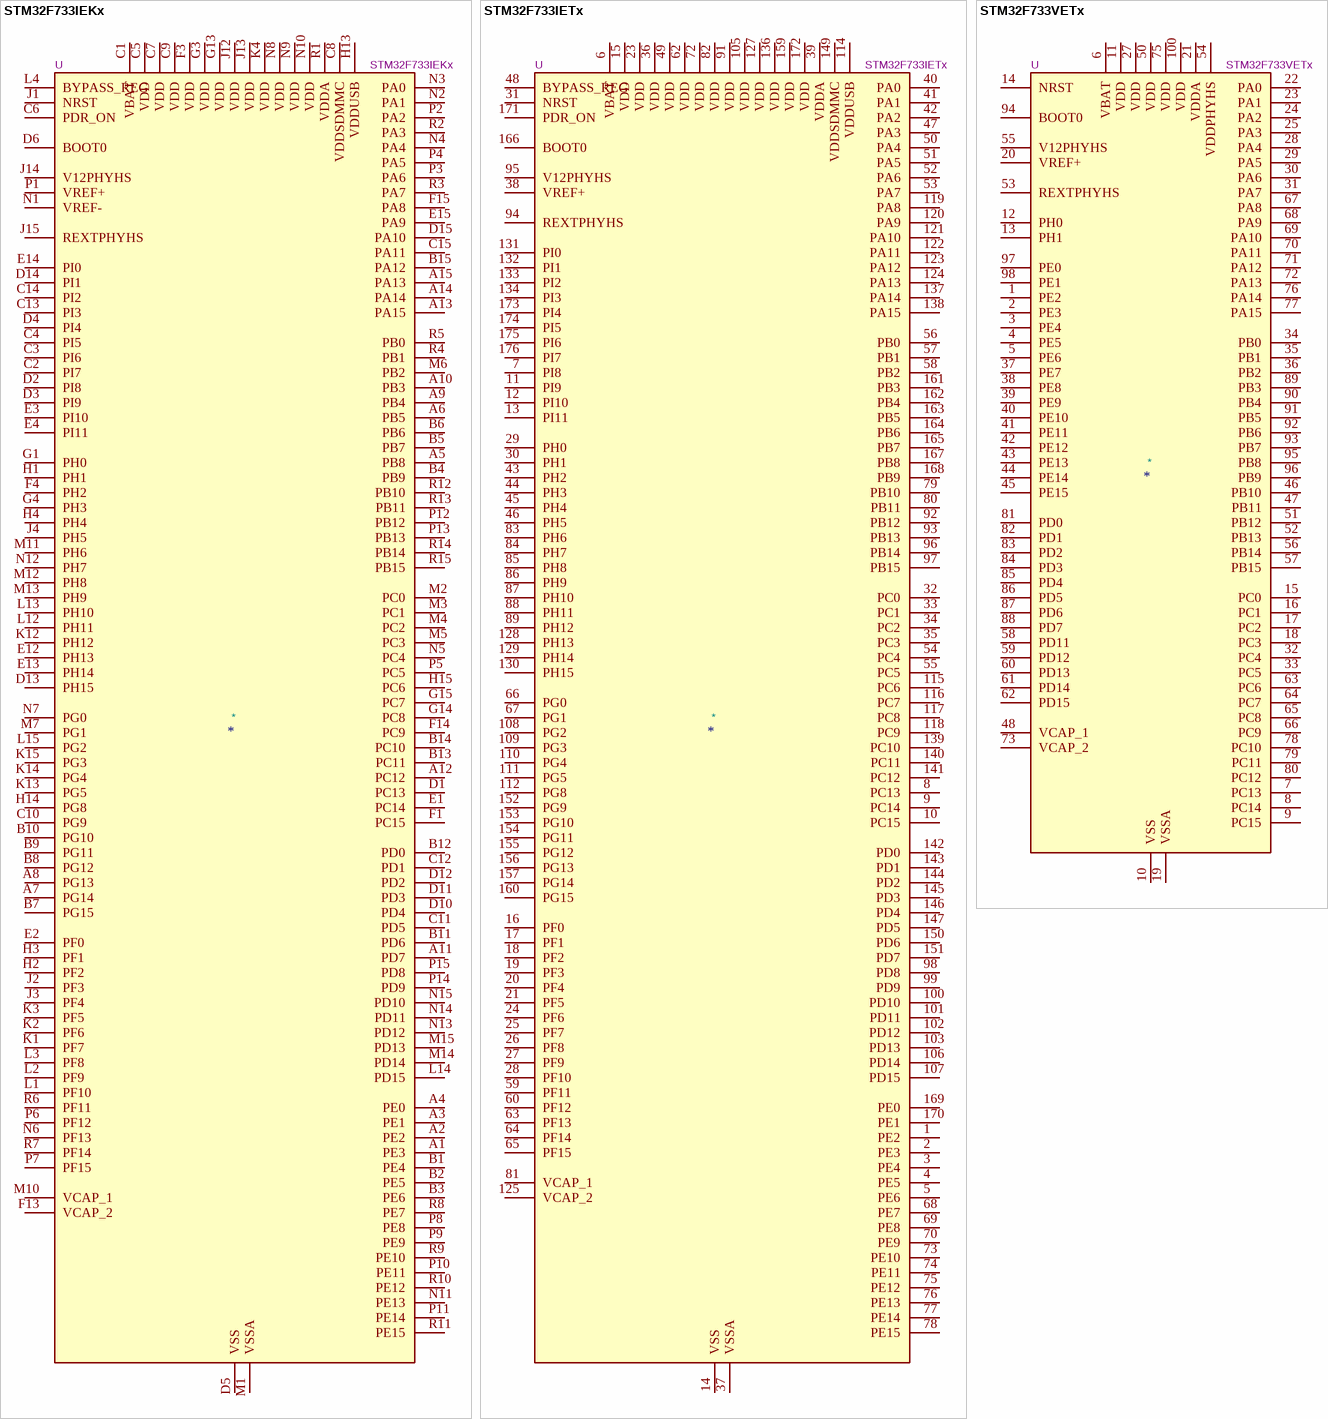
[diagram p12: symbols STM32F733IEKx to STM32F733VETx]

## STM32F733IEKx
designator *  value STM32F733IEKx  Reference: U
ki_keywords: Arm Cortex-M7 STM32F7 STM32F7x3; ki_description: STMicroelectronics Arm Cortex-M7 MCU, 512KB flash, 256KB RAM, 216 MHz, 1.7-3.6V, 138 GPIO, UFBGA176; ki_fp_filters: *UFBGA*10x10mm*Layout15x15*P0.65mm*; Footprint: Package_BGA:UFBGA-201_10x10mm_Layout15x15_P0.65mm; Datasheet: https://www.st.com/resource/en/datasheet/stm32f733ie.pdf
pins: A1 PE3, A2 PE2, A3 PE1, A4 PE0, A5 PB8, A6 PB5, A7 PG14, A8 PG13, A9 PB4, A10 PB3, A11 PD7, A12 PC12, A13 PA15, A14 PA14, A15 PA13, B1 PE4, B2 PE5, B3 PE6, B4 PB9, B5 PB7, B6 PB6, B7 PG15, B8 PG12, B9 PG11, B10 PG10, B11 PD6, B12 PD0, B13 PC11, B14 PC10, B15 PA12, C1 VBAT, C2 PI7, C3 PI6, C4 PI5, C5 VDD, C6 PDR_ON, C7 VDD, C8 VDDSDMMC, C9 VDD, C10 PG9, C11 PD5, C12 PD1, C13 PI3, C14 PI2, C15 PA11, D1 PC13, D2 PI8, D3 PI9, D4 PI4, D5 VSS, D6 BOOT0, D7 VSS hidden, D8 VSS hidden, D9 VSS hidden, D10 PD4, D11 PD3, D12 PD2, D13 PH15, D14 PI1, D15 PA10, E1 PC14, E2 PF0, E3 PI10, E4 PI11, E12 PH13, E13 PH14, E14 PI0, E15 PA9, F1 PC15, F2 VSS hidden, F3 VDD, F4 PH2, F6 VSS hidden, F7 VSS hidden, F8 VSS hidden, F9 VSS hidden, F10 VSS hidden, F12 VSS hidden, F13 VCAP_2, F14 PC9, F15 PA8, G1 PH0, G2 VSS hidden, G3 VDD, G4 PH3, G6 VSS hidden, G7 VSS hidden, G8 VSS hidden, G9 VSS hidden, G10 VSS hidden, G12 VSS hidden, G13 VDD, G14 PC8, G15 PC7, H1 PH1, H2 PF2, H3 PF1, H4 PH4, H6 VSS hidden, H7 VSS hidden, H8 VSS hidden, H9 VSS hidden, H10 VSS hidden, H12 VSS hidden, H13 VDDUSB, H14 PG8, H15 PC6, J1 NRST, J2 PF3, J3 PF4, J4 PH5, J6 VSS hidden, J7 VSS hidden, J8 VSS hidden, J9 VSS hidden, J10 VSS hidden, J12 VDD, J13 VDD, J14 V12PHYHS, J15 REXTPHYHS, K1 PF7, K2 PF6, K3 PF5, K4 VDD, K6 VSS hidden, K7 VSS hidden, K8 VSS hidden, K9 VSS hidden, K10 VSS hidden, K12 PH12, K13 PG5, K14 PG4, K15 PG3, L1 PF10, L2 PF9, L3 PF8, L4 BYPASS_REG, L12 PH11, L13 PH10, L14 PD15, L15 PG2, M1 VSSA, M2 PC0, M3 PC1, M4 PC2, M5 PC3, M6 PB2, M7 PG1, M8 VSS hidden, M9 VSS hidden, M10 VCAP_1, M11 PH6, M12 PH8, M13 PH9, M14 PD14, M15 PD13, N1 VREF-, N2 PA1, N3 PA0, N4 PA4, N5 PC4, N6 PF13, N7 PG0, N8 VDD, N9 VDD, N10 VDD, N11 PE13, N12 PH7, N13 PD12, N14 PD11, N15 PD10, P1 VREF+, P2 PA2, P3 PA6, P4 PA5, P5 PC5, P6 PF12, P7 PF15, P8 PE8, P9 PE9, P10 PE11, P11 PE14, P12 PB12, P13 PB13, P14 PD9, P15 PD8, R1 VDDA, R2 PA3, R3 PA7, R4 PB1, R5 PB0, R6 PF11, R7 PF14, R8 PE7, R9 PE10, R10 PE12, R11 PE15, R12 PB10, R13 PB11, R14 PB14, R15 PB15

## STM32F733IETx
designator *  value STM32F733IETx  Reference: U
ki_keywords: Arm Cortex-M7 STM32F7 STM32F7x3; ki_description: STMicroelectronics Arm Cortex-M7 MCU, 512KB flash, 256KB RAM, 216 MHz, 1.7-3.6V, 138 GPIO, LQFP176; ki_fp_filters: LQFP*24x24mm*P0.5mm*; Footprint: Package_QFP:LQFP-176_24x24mm_P0.5mm; Datasheet: https://www.st.com/resource/en/datasheet/stm32f733ie.pdf
pins: 1 PE2, 2 PE3, 3 PE4, 4 PE5, 5 PE6, 6 VBAT, 7 PI8, 8 PC13, 9 PC14, 10 PC15, 11 PI9, 12 PI10, 13 PI11, 14 VSS, 15 VDD, 16 PF0, 17 PF1, 18 PF2, 19 PF3, 20 PF4, 21 PF5, 22 VSS hidden, 23 VDD, 24 PF6, 25 PF7, 26 PF8, 27 PF9, 28 PF10, 29 PH0, 30 PH1, 31 NRST, 32 PC0, 33 PC1, 34 PC2, 35 PC3, 36 VDD, 37 VSSA, 38 VREF+, 39 VDDA, 40 PA0, 41 PA1, 42 PA2, 43 PH2, 44 PH3, 45 PH4, 46 PH5, 47 PA3, 48 BYPASS_REG, 49 VDD, 50 PA4, 51 PA5, 52 PA6, 53 PA7, 54 PC4, 55 PC5, 56 PB0, 57 PB1, 58 PB2, 59 PF11, 60 PF12, 61 VSS hidden, 62 VDD, 63 PF13, 64 PF14, 65 PF15, 66 PG0, 67 PG1, 68 PE7, 69 PE8, 70 PE9, 71 VSS hidden, 72 VDD, 73 PE10, 74 PE11, 75 PE12, 76 PE13, 77 PE14, 78 PE15, 79 PB10, 80 PB11, 81 VCAP_1, 82 VDD, 83 PH6, 84 PH7, 85 PH8, 86 PH9, 87 PH10, 88 PH11, 89 PH12, 90 VSS hidden, 91 VDD, 92 PB12, 93 PB13, 94 REXTPHYHS, 95 V12PHYHS, 96 PB14, 97 PB15, 98 PD8, 99 PD9, 100 PD10, 101 PD11, 102 PD12, 103 PD13, 104 VSS hidden, 105 VDD, 106 PD14, 107 PD15, 108 PG2, 109 PG3, 110 PG4, 111 PG5, 112 PG8, 113 VSS hidden, 114 VDDUSB, 115 PC6, 116 PC7, 117 PC8, 118 PC9, 119 PA8, 120 PA9, 121 PA10, 122 PA11, 123 PA12, 124 PA13, 125 VCAP_2, 126 VSS hidden, 127 VDD, 128 PH13, 129 PH14, 130 PH15, 131 PI0, 132 PI1, 133 PI2, 134 PI3, 135 VSS hidden, 136 VDD, 137 PA14, 138 PA15, 139 PC10, 140 PC11, 141 PC12, 142 PD0, 143 PD1, 144 PD2, 145 PD3, 146 PD4, 147 PD5, 148 VSS hidden, 149 VDDSDMMC, 150 PD6, 151 PD7, 152 PG9, 153 PG10, 154 PG11, 155 PG12, 156 PG13, 157 PG14, 158 VSS hidden, 159 VDD, 160 PG15, 161 PB3, 162 PB4, 163 PB5, 164 PB6, 165 PB7, 166 BOOT0, 167 PB8, 168 PB9, 169 PE0, 170 PE1, 171 PDR_ON, 172 VDD, 173 PI4, 174 PI5, 175 PI6, 176 PI7

## STM32F733VETx
designator *  value STM32F733VETx  Reference: U
ki_keywords: Arm Cortex-M7 STM32F7 STM32F7x3; ki_description: STMicroelectronics Arm Cortex-M7 MCU, 512KB flash, 256KB RAM, 216 MHz, 1.7-3.6V, 79 GPIO, LQFP100; ki_fp_filters: LQFP*14x14mm*P0.5mm*; Footprint: Package_QFP:LQFP-100_14x14mm_P0.5mm; Datasheet: https://www.st.com/resource/en/datasheet/stm32f733ve.pdf
pins: 1 PE2, 2 PE3, 3 PE4, 4 PE5, 5 PE6, 6 VBAT, 7 PC13, 8 PC14, 9 PC15, 10 VSS, 11 VDD, 12 PH0, 13 PH1, 14 NRST, 15 PC0, 16 PC1, 17 PC2, 18 PC3, 19 VSSA, 20 VREF+, 21 VDDA, 22 PA0, 23 PA1, 24 PA2, 25 PA3, 26 VSS hidden, 27 VDD, 28 PA4, 29 PA5, 30 PA6, 31 PA7, 32 PC4, 33 PC5, 34 PB0, 35 PB1, 36 PB2, 37 PE7, 38 PE8, 39 PE9, 40 PE10, 41 PE11, 42 PE12, 43 PE13, 44 PE14, 45 PE15, 46 PB10, 47 PB11, 48 VCAP_1, 49 VSS hidden, 50 VDD, 51 PB12, 52 PB13, 53 REXTPHYHS, 54 VDDPHYHS, 55 V12PHYHS, 56 PB14, 57 PB15, 58 PD11, 59 PD12, 60 PD13, 61 PD14, 62 PD15, 63 PC6, 64 PC7, 65 PC8, 66 PC9, 67 PA8, 68 PA9, 69 PA10, 70 PA11, 71 PA12, 72 PA13, 73 VCAP_2, 74 VSS hidden, 75 VDD, 76 PA14, 77 PA15, 78 PC10, 79 PC11, 80 PC12, 81 PD0, 82 PD1, 83 PD2, 84 PD3, 85 PD4, 86 PD5, 87 PD6, 88 PD7, 89 PB3, 90 PB4, 91 PB5, 92 PB6, 93 PB7, 94 BOOT0, 95 PB8, 96 PB9, 97 PE0, 98 PE1, 99 VSS hidden, 100 VDD

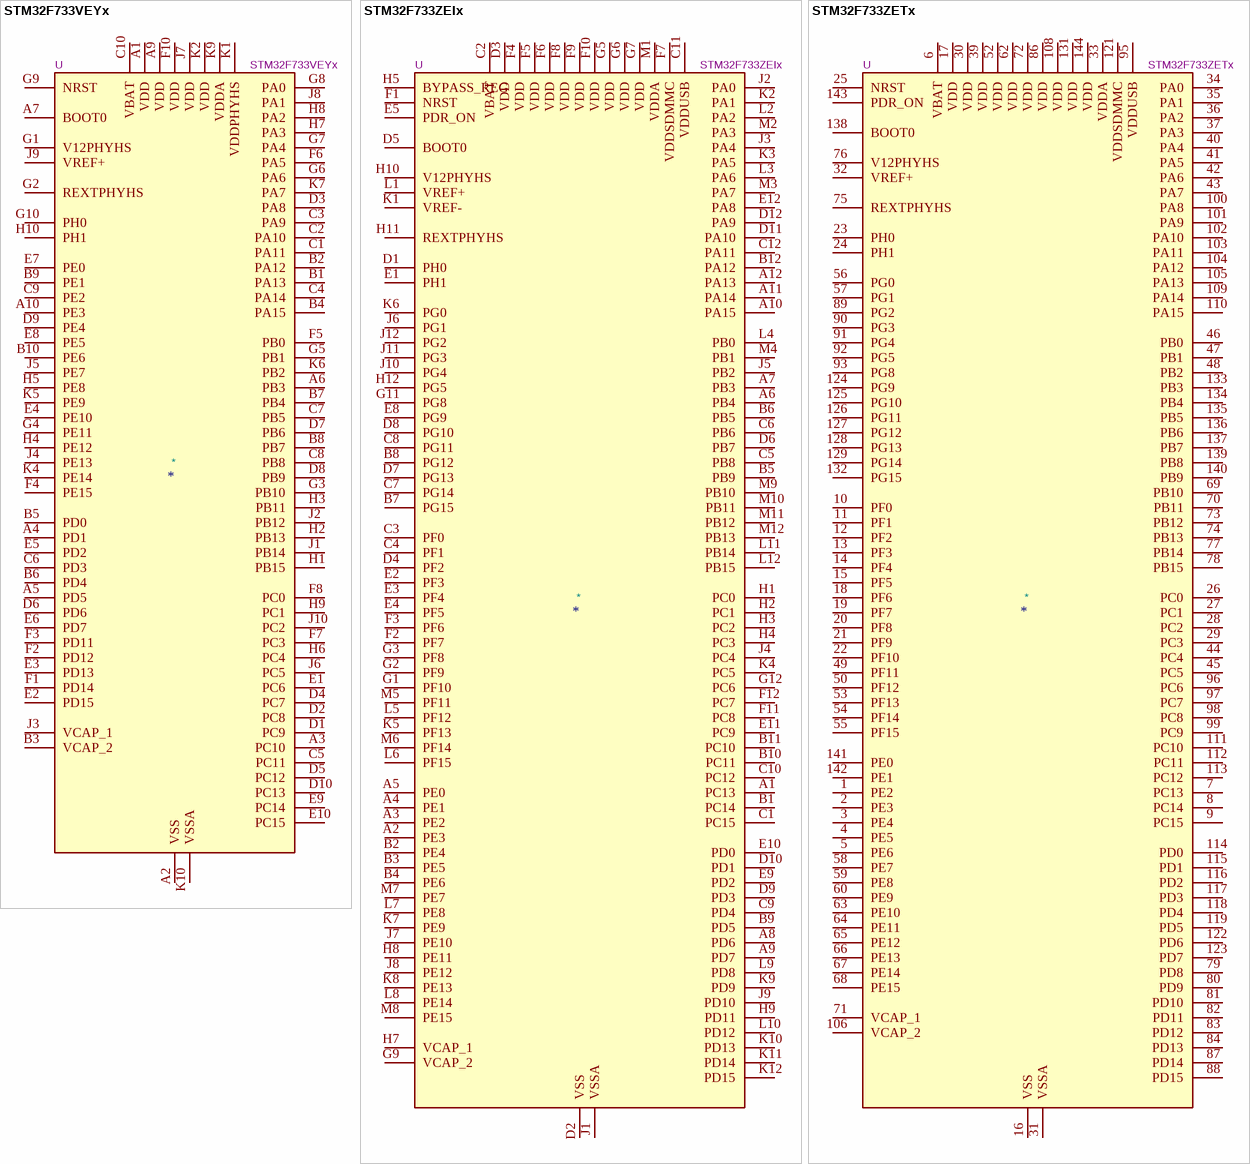
[diagram p13: symbols STM32F733VEYx to STM32F733ZETx]

## STM32F733VEYx
designator *  value STM32F733VEYx  Reference: U
ki_keywords: Arm Cortex-M7 STM32F7 STM32F7x3; ki_description: STMicroelectronics Arm Cortex-M7 MCU, 512KB flash, 256KB RAM, 216 MHz, 1.7-3.6V, 79 GPIO, WLCSP100; ki_fp_filters: ST*WLCSP*Die452*; Footprint: Package_CSP:ST_WLCSP-100_Die452; Datasheet: https://www.st.com/resource/en/datasheet/stm32f733ve.pdf
pins: A1 VDD, A2 VSS, A3 PC10, A4 PD1, A5 PD5, A6 PB3, A7 BOOT0, A8 VSS hidden, A9 VDD, A10 PE3, B1 PA13, B2 PA12, B3 VCAP_2, B4 PA15, B5 PD0, B6 PD4, B7 PB4, B8 PB7, B9 PE1, B10 PE6, C1 PA11, C2 PA10, C3 PA9, C4 PA14, C5 PC11, C6 PD3, C7 PB5, C8 PB8, C9 PE2, C10 VBAT, D1 PC9, D2 PC8, D3 PA8, D4 PC7, D5 PC12, D6 PD6, D7 PB6, D8 PB9, D9 PE4, D10 PC13, E1 PC6, E2 PD15, E3 PD13, E4 PE10, E5 PD2, E6 PD7, E7 PE0, E8 PE5, E9 PC14, E10 PC15, F1 PD14, F2 PD12, F3 PD11, F4 PE15, F5 PB0, F6 PA5, F7 PC3, F8 PC0, F9 VSS hidden, F10 VDD, G1 V12PHYHS, G2 REXTPHYHS, G3 PB10, G4 PE11, G5 PB1, G6 PA6, G7 PA4, G8 PA0, G9 NRST, G10 PH0, H1 PB15, H2 PB13, H3 PB11, H4 PE12, H5 PE8, H6 PC4, H7 PA3, H8 PA2, H9 PC1, H10 PH1, J1 PB14, J2 PB12, J3 VCAP_1, J4 PE13, J5 PE7, J6 PC5, J7 VDD, J8 PA1, J9 VREF+, J10 PC2, K1 VDDPHYHS, K2 VDD, K3 VSS hidden, K4 PE14, K5 PE9, K6 PB2, K7 PA7, K8 VSS hidden, K9 VDDA, K10 VSSA

## STM32F733ZEIx
designator *  value STM32F733ZEIx  Reference: U
ki_keywords: Arm Cortex-M7 STM32F7 STM32F7x3; ki_description: STMicroelectronics Arm Cortex-M7 MCU, 512KB flash, 256KB RAM, 216 MHz, 1.7-3.6V, 112 GPIO, UFBGA144; ki_fp_filters: *UFBGA*7x7mm*Layout12x12*P0.5mm*; Footprint: Package_BGA:UFBGA-144_7x7mm_Layout12x12_P0.5mm; Datasheet: https://www.st.com/resource/en/datasheet/stm32f733ze.pdf
pins: A1 PC13, A2 PE3, A3 PE2, A4 PE1, A5 PE0, A6 PB4, A7 PB3, A8 PD6, A9 PD7, A10 PA15, A11 PA14, A12 PA13, B1 PC14, B2 PE4, B3 PE5, B4 PE6, B5 PB9, B6 PB5, B7 PG15, B8 PG12, B9 PD5, B10 PC11, B11 PC10, B12 PA12, C1 PC15, C2 VBAT, C3 PF0, C4 PF1, C5 PB8, C6 PB6, C7 PG14, C8 PG11, C9 PD4, C10 PC12, C11 VDDUSB, C12 PA11, D1 PH0, D2 VSS, D3 VDD, D4 PF2, D5 BOOT0, D6 PB7, D7 PG13, D8 PG10, D9 PD3, D10 PD1, D11 PA10, D12 PA9, E1 PH1, E2 PF3, E3 PF4, E4 PF5, E5 PDR_ON, E6 VSS hidden, E7 VSS hidden, E8 PG9, E9 PD2, E10 PD0, E11 PC9, E12 PA8, F1 NRST, F2 PF7, F3 PF6, F4 VDD, F5 VDD, F6 VDD, F7 VDDSDMMC, F8 VDD, F9 VDD, F10 VDD, F11 PC8, F12 PC7, G1 PF10, G2 PF9, G3 PF8, G4 VSS hidden, G5 VDD, G6 VDD, G7 VDD, G8 VSS hidden, G9 VCAP_2, G10 VSS hidden, G11 PG8, G12 PC6, H1 PC0, H2 PC1, H3 PC2, H4 PC3, H5 BYPASS_REG, H6 VSS hidden, H7 VCAP_1, H8 PE11, H9 PD11, H10 V12PHYHS, H11 REXTPHYHS, H12 PG5, J1 VSSA, J2 PA0, J3 PA4, J4 PC4, J5 PB2, J6 PG1, J7 PE10, J8 PE12, J9 PD10, J10 PG4, J11 PG3, J12 PG2, K1 VREF-, K2 PA1, K3 PA5, K4 PC5, K5 PF13, K6 PG0, K7 PE9, K8 PE13, K9 PD9, K10 PD13, K11 PD14, K12 PD15, L1 VREF+, L2 PA2, L3 PA6, L4 PB0, L5 PF12, L6 PF15, L7 PE8, L8 PE14, L9 PD8, L10 PD12, L11 PB14, L12 PB15, M1 VDDA, M2 PA3, M3 PA7, M4 PB1, M5 PF11, M6 PF14, M7 PE7, M8 PE15, M9 PB10, M10 PB11, M11 PB12, M12 PB13

## STM32F733ZETx
designator *  value STM32F733ZETx  Reference: U
ki_keywords: Arm Cortex-M7 STM32F7 STM32F7x3; ki_description: STMicroelectronics Arm Cortex-M7 MCU, 512KB flash, 256KB RAM, 216 MHz, 1.7-3.6V, 112 GPIO, LQFP144; ki_fp_filters: LQFP*20x20mm*P0.5mm*; Footprint: Package_QFP:LQFP-144_20x20mm_P0.5mm; Datasheet: https://www.st.com/resource/en/datasheet/stm32f733ze.pdf
pins: 1 PE2, 2 PE3, 3 PE4, 4 PE5, 5 PE6, 6 VBAT, 7 PC13, 8 PC14, 9 PC15, 10 PF0, 11 PF1, 12 PF2, 13 PF3, 14 PF4, 15 PF5, 16 VSS, 17 VDD, 18 PF6, 19 PF7, 20 PF8, 21 PF9, 22 PF10, 23 PH0, 24 PH1, 25 NRST, 26 PC0, 27 PC1, 28 PC2, 29 PC3, 30 VDD, 31 VSSA, 32 VREF+, 33 VDDA, 34 PA0, 35 PA1, 36 PA2, 37 PA3, 38 VSS hidden, 39 VDD, 40 PA4, 41 PA5, 42 PA6, 43 PA7, 44 PC4, 45 PC5, 46 PB0, 47 PB1, 48 PB2, 49 PF11, 50 PF12, 51 VSS hidden, 52 VDD, 53 PF13, 54 PF14, 55 PF15, 56 PG0, 57 PG1, 58 PE7, 59 PE8, 60 PE9, 61 VSS hidden, 62 VDD, 63 PE10, 64 PE11, 65 PE12, 66 PE13, 67 PE14, 68 PE15, 69 PB10, 70 PB11, 71 VCAP_1, 72 VDD, 73 PB12, 74 PB13, 75 REXTPHYHS, 76 V12PHYHS, 77 PB14, 78 PB15, 79 PD8, 80 PD9, 81 PD10, 82 PD11, 83 PD12, 84 PD13, 85 VSS hidden, 86 VDD, 87 PD14, 88 PD15, 89 PG2, 90 PG3, 91 PG4, 92 PG5, 93 PG8, 94 VSS hidden, 95 VDDUSB, 96 PC6, 97 PC7, 98 PC8, 99 PC9, 100 PA8, 101 PA9, 102 PA10, 103 PA11, 104 PA12, 105 PA13, 106 VCAP_2, 107 VSS hidden, 108 VDD, 109 PA14, 110 PA15, 111 PC10, 112 PC11, 113 PC12, 114 PD0, 115 PD1, 116 PD2, 117 PD3, 118 PD4, 119 PD5, 120 VSS hidden, 121 VDDSDMMC, 122 PD6, 123 PD7, 124 PG9, 125 PG10, 126 PG11, 127 PG12, 128 PG13, 129 PG14, 130 VSS hidden, 131 VDD, 132 PG15, 133 PB3, 134 PB4, 135 PB5, 136 PB6, 137 PB7, 138 BOOT0, 139 PB8, 140 PB9, 141 PE0, 142 PE1, 143 PDR_ON, 144 VDD

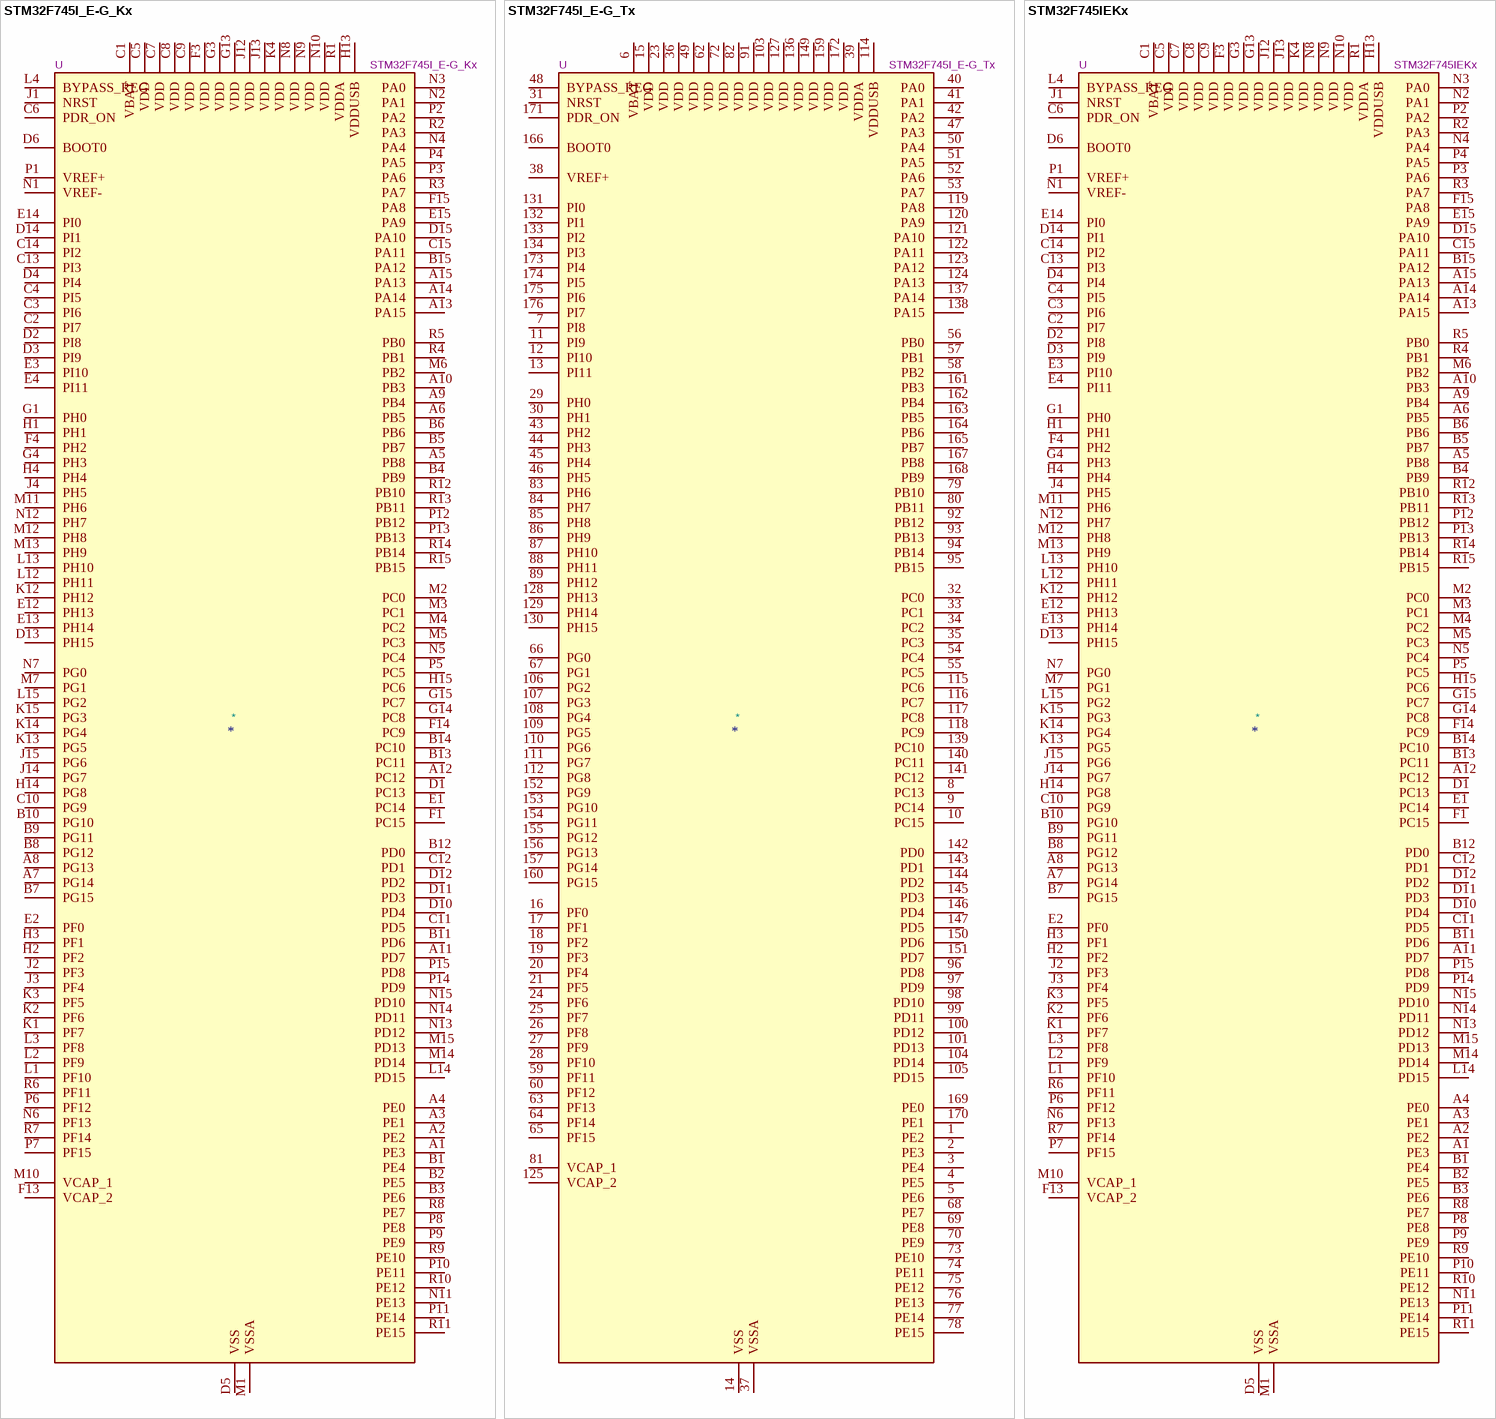
[diagram p14: symbols STM32F745I_E-G_Kx to STM32F745IEKx]

## STM32F745I_E-G_Kx
designator *  value STM32F745I_E-G_Kx  Reference: U
ki_keywords: Arm Cortex-M7 STM32F7 STM32F7x5; ki_description: STMicroelectronics Arm Cortex-M7 MCU, 512-1024KB flash, 320KB RAM, 216 MHz, 1.7-3.6V, 140 GPIO, UFBGA176; ki_fp_filters: *UFBGA*10x10mm*Layout15x15*P0.65mm*; Footprint: Package_BGA:UFBGA-201_10x10mm_Layout15x15_P0.65mm; Datasheet: https://www.st.com/resource/en/datasheet/stm32f745ie.pdf
pins: A1 PE3, A2 PE2, A3 PE1, A4 PE0, A5 PB8, A6 PB5, A7 PG14, A8 PG13, A9 PB4, A10 PB3, A11 PD7, A12 PC12, A13 PA15, A14 PA14, A15 PA13, B1 PE4, B2 PE5, B3 PE6, B4 PB9, B5 PB7, B6 PB6, B7 PG15, B8 PG12, B9 PG11, B10 PG10, B11 PD6, B12 PD0, B13 PC11, B14 PC10, B15 PA12, C1 VBAT, C2 PI7, C3 PI6, C4 PI5, C5 VDD, C6 PDR_ON, C7 VDD, C8 VDD, C9 VDD, C10 PG9, C11 PD5, C12 PD1, C13 PI3, C14 PI2, C15 PA11, D1 PC13, D2 PI8, D3 PI9, D4 PI4, D5 VSS, D6 BOOT0, D7 VSS hidden, D8 VSS hidden, D9 VSS hidden, D10 PD4, D11 PD3, D12 PD2, D13 PH15, D14 PI1, D15 PA10, E1 PC14, E2 PF0, E3 PI10, E4 PI11, E12 PH13, E13 PH14, E14 PI0, E15 PA9, F1 PC15, F2 VSS hidden, F3 VDD, F4 PH2, F6 VSS hidden, F7 VSS hidden, F8 VSS hidden, F9 VSS hidden, F10 VSS hidden, F12 VSS hidden, F13 VCAP_2, F14 PC9, F15 PA8, G1 PH0, G2 VSS hidden, G3 VDD, G4 PH3, G6 VSS hidden, G7 VSS hidden, G8 VSS hidden, G9 VSS hidden, G10 VSS hidden, G12 VSS hidden, G13 VDD, G14 PC8, G15 PC7, H1 PH1, H2 PF2, H3 PF1, H4 PH4, H6 VSS hidden, H7 VSS hidden, H8 VSS hidden, H9 VSS hidden, H10 VSS hidden, H12 VSS hidden, H13 VDDUSB, H14 PG8, H15 PC6, J1 NRST, J2 PF3, J3 PF4, J4 PH5, J6 VSS hidden, J7 VSS hidden, J8 VSS hidden, J9 VSS hidden, J10 VSS hidden, J12 VDD, J13 VDD, J14 PG7, J15 PG6, K1 PF7, K2 PF6, K3 PF5, K4 VDD, K6 VSS hidden, K7 VSS hidden, K8 VSS hidden, K9 VSS hidden, K10 VSS hidden, K12 PH12, K13 PG5, K14 PG4, K15 PG3, L1 PF10, L2 PF9, L3 PF8, L4 BYPASS_REG, L12 PH11, L13 PH10, L14 PD15, L15 PG2, M1 VSSA, M2 PC0, M3 PC1, M4 PC2, M5 PC3, M6 PB2, M7 PG1, M8 VSS hidden, M9 VSS hidden, M10 VCAP_1, M11 PH6, M12 PH8, M13 PH9, M14 PD14, M15 PD13, N1 VREF-, N2 PA1, N3 PA0, N4 PA4, N5 PC4, N6 PF13, N7 PG0, N8 VDD, N9 VDD, N10 VDD, N11 PE13, N12 PH7, N13 PD12, N14 PD11, N15 PD10, P1 VREF+, P2 PA2, P3 PA6, P4 PA5, P5 PC5, P6 PF12, P7 PF15, P8 PE8, P9 PE9, P10 PE11, P11 PE14, P12 PB12, P13 PB13, P14 PD9, P15 PD8, R1 VDDA, R2 PA3, R3 PA7, R4 PB1, R5 PB0, R6 PF11, R7 PF14, R8 PE7, R9 PE10, R10 PE12, R11 PE15, R12 PB10, R13 PB11, R14 PB14, R15 PB15

## STM32F745I_E-G_Tx
designator *  value STM32F745I_E-G_Tx  Reference: U
ki_keywords: Arm Cortex-M7 STM32F7 STM32F7x5; ki_description: STMicroelectronics Arm Cortex-M7 MCU, 512-1024KB flash, 320KB RAM, 216 MHz, 1.7-3.6V, 140 GPIO, LQFP176; ki_fp_filters: LQFP*24x24mm*P0.5mm*; Footprint: Package_QFP:LQFP-176_24x24mm_P0.5mm; Datasheet: https://www.st.com/resource/en/datasheet/stm32f745ie.pdf
pins: 1 PE2, 2 PE3, 3 PE4, 4 PE5, 5 PE6, 6 VBAT, 7 PI8, 8 PC13, 9 PC14, 10 PC15, 11 PI9, 12 PI10, 13 PI11, 14 VSS, 15 VDD, 16 PF0, 17 PF1, 18 PF2, 19 PF3, 20 PF4, 21 PF5, 22 VSS hidden, 23 VDD, 24 PF6, 25 PF7, 26 PF8, 27 PF9, 28 PF10, 29 PH0, 30 PH1, 31 NRST, 32 PC0, 33 PC1, 34 PC2, 35 PC3, 36 VDD, 37 VSSA, 38 VREF+, 39 VDDA, 40 PA0, 41 PA1, 42 PA2, 43 PH2, 44 PH3, 45 PH4, 46 PH5, 47 PA3, 48 BYPASS_REG, 49 VDD, 50 PA4, 51 PA5, 52 PA6, 53 PA7, 54 PC4, 55 PC5, 56 PB0, 57 PB1, 58 PB2, 59 PF11, 60 PF12, 61 VSS hidden, 62 VDD, 63 PF13, 64 PF14, 65 PF15, 66 PG0, 67 PG1, 68 PE7, 69 PE8, 70 PE9, 71 VSS hidden, 72 VDD, 73 PE10, 74 PE11, 75 PE12, 76 PE13, 77 PE14, 78 PE15, 79 PB10, 80 PB11, 81 VCAP_1, 82 VDD, 83 PH6, 84 PH7, 85 PH8, 86 PH9, 87 PH10, 88 PH11, 89 PH12, 90 VSS hidden, 91 VDD, 92 PB12, 93 PB13, 94 PB14, 95 PB15, 96 PD8, 97 PD9, 98 PD10, 99 PD11, 100 PD12, 101 PD13, 102 VSS hidden, 103 VDD, 104 PD14, 105 PD15, 106 PG2, 107 PG3, 108 PG4, 109 PG5, 110 PG6, 111 PG7, 112 PG8, 113 VSS hidden, 114 VDDUSB, 115 PC6, 116 PC7, 117 PC8, 118 PC9, 119 PA8, 120 PA9, 121 PA10, 122 PA11, 123 PA12, 124 PA13, 125 VCAP_2, 126 VSS hidden, 127 VDD, 128 PH13, 129 PH14, 130 PH15, 131 PI0, 132 PI1, 133 PI2, 134 PI3, 135 VSS hidden, 136 VDD, 137 PA14, 138 PA15, 139 PC10, 140 PC11, 141 PC12, 142 PD0, 143 PD1, 144 PD2, 145 PD3, 146 PD4, 147 PD5, 148 VSS hidden, 149 VDD, 150 PD6, 151 PD7, 152 PG9, 153 PG10, 154 PG11, 155 PG12, 156 PG13, 157 PG14, 158 VSS hidden, 159 VDD, 160 PG15, 161 PB3, 162 PB4, 163 PB5, 164 PB6, 165 PB7, 166 BOOT0, 167 PB8, 168 PB9, 169 PE0, 170 PE1, 171 PDR_ON, 172 VDD, 173 PI4, 174 PI5, 175 PI6, 176 PI7

## STM32F745IEKx
designator *  value STM32F745IEKx  Reference: U
ki_keywords: Arm Cortex-M7 STM32F7 STM32F7x5; ki_description: STMicroelectronics Arm Cortex-M7 MCU, 512KB flash, 320KB RAM, 216 MHz, 1.7-3.6V, 140 GPIO, UFBGA176; ki_fp_filters: *UFBGA*10x10mm*Layout15x15*P0.65mm*; Footprint: Package_BGA:UFBGA-201_10x10mm_Layout15x15_P0.65mm; Datasheet: https://www.st.com/resource/en/datasheet/stm32f745ie.pdf
pins: A1 PE3, A2 PE2, A3 PE1, A4 PE0, A5 PB8, A6 PB5, A7 PG14, A8 PG13, A9 PB4, A10 PB3, A11 PD7, A12 PC12, A13 PA15, A14 PA14, A15 PA13, B1 PE4, B2 PE5, B3 PE6, B4 PB9, B5 PB7, B6 PB6, B7 PG15, B8 PG12, B9 PG11, B10 PG10, B11 PD6, B12 PD0, B13 PC11, B14 PC10, B15 PA12, C1 VBAT, C2 PI7, C3 PI6, C4 PI5, C5 VDD, C6 PDR_ON, C7 VDD, C8 VDD, C9 VDD, C10 PG9, C11 PD5, C12 PD1, C13 PI3, C14 PI2, C15 PA11, D1 PC13, D2 PI8, D3 PI9, D4 PI4, D5 VSS, D6 BOOT0, D7 VSS hidden, D8 VSS hidden, D9 VSS hidden, D10 PD4, D11 PD3, D12 PD2, D13 PH15, D14 PI1, D15 PA10, E1 PC14, E2 PF0, E3 PI10, E4 PI11, E12 PH13, E13 PH14, E14 PI0, E15 PA9, F1 PC15, F2 VSS hidden, F3 VDD, F4 PH2, F6 VSS hidden, F7 VSS hidden, F8 VSS hidden, F9 VSS hidden, F10 VSS hidden, F12 VSS hidden, F13 VCAP_2, F14 PC9, F15 PA8, G1 PH0, G2 VSS hidden, G3 VDD, G4 PH3, G6 VSS hidden, G7 VSS hidden, G8 VSS hidden, G9 VSS hidden, G10 VSS hidden, G12 VSS hidden, G13 VDD, G14 PC8, G15 PC7, H1 PH1, H2 PF2, H3 PF1, H4 PH4, H6 VSS hidden, H7 VSS hidden, H8 VSS hidden, H9 VSS hidden, H10 VSS hidden, H12 VSS hidden, H13 VDDUSB, H14 PG8, H15 PC6, J1 NRST, J2 PF3, J3 PF4, J4 PH5, J6 VSS hidden, J7 VSS hidden, J8 VSS hidden, J9 VSS hidden, J10 VSS hidden, J12 VDD, J13 VDD, J14 PG7, J15 PG6, K1 PF7, K2 PF6, K3 PF5, K4 VDD, K6 VSS hidden, K7 VSS hidden, K8 VSS hidden, K9 VSS hidden, K10 VSS hidden, K12 PH12, K13 PG5, K14 PG4, K15 PG3, L1 PF10, L2 PF9, L3 PF8, L4 BYPASS_REG, L12 PH11, L13 PH10, L14 PD15, L15 PG2, M1 VSSA, M2 PC0, M3 PC1, M4 PC2, M5 PC3, M6 PB2, M7 PG1, M8 VSS hidden, M9 VSS hidden, M10 VCAP_1, M11 PH6, M12 PH8, M13 PH9, M14 PD14, M15 PD13, N1 VREF-, N2 PA1, N3 PA0, N4 PA4, N5 PC4, N6 PF13, N7 PG0, N8 VDD, N9 VDD, N10 VDD, N11 PE13, N12 PH7, N13 PD12, N14 PD11, N15 PD10, P1 VREF+, P2 PA2, P3 PA6, P4 PA5, P5 PC5, P6 PF12, P7 PF15, P8 PE8, P9 PE9, P10 PE11, P11 PE14, P12 PB12, P13 PB13, P14 PD9, P15 PD8, R1 VDDA, R2 PA3, R3 PA7, R4 PB1, R5 PB0, R6 PF11, R7 PF14, R8 PE7, R9 PE10, R10 PE12, R11 PE15, R12 PB10, R13 PB11, R14 PB14, R15 PB15

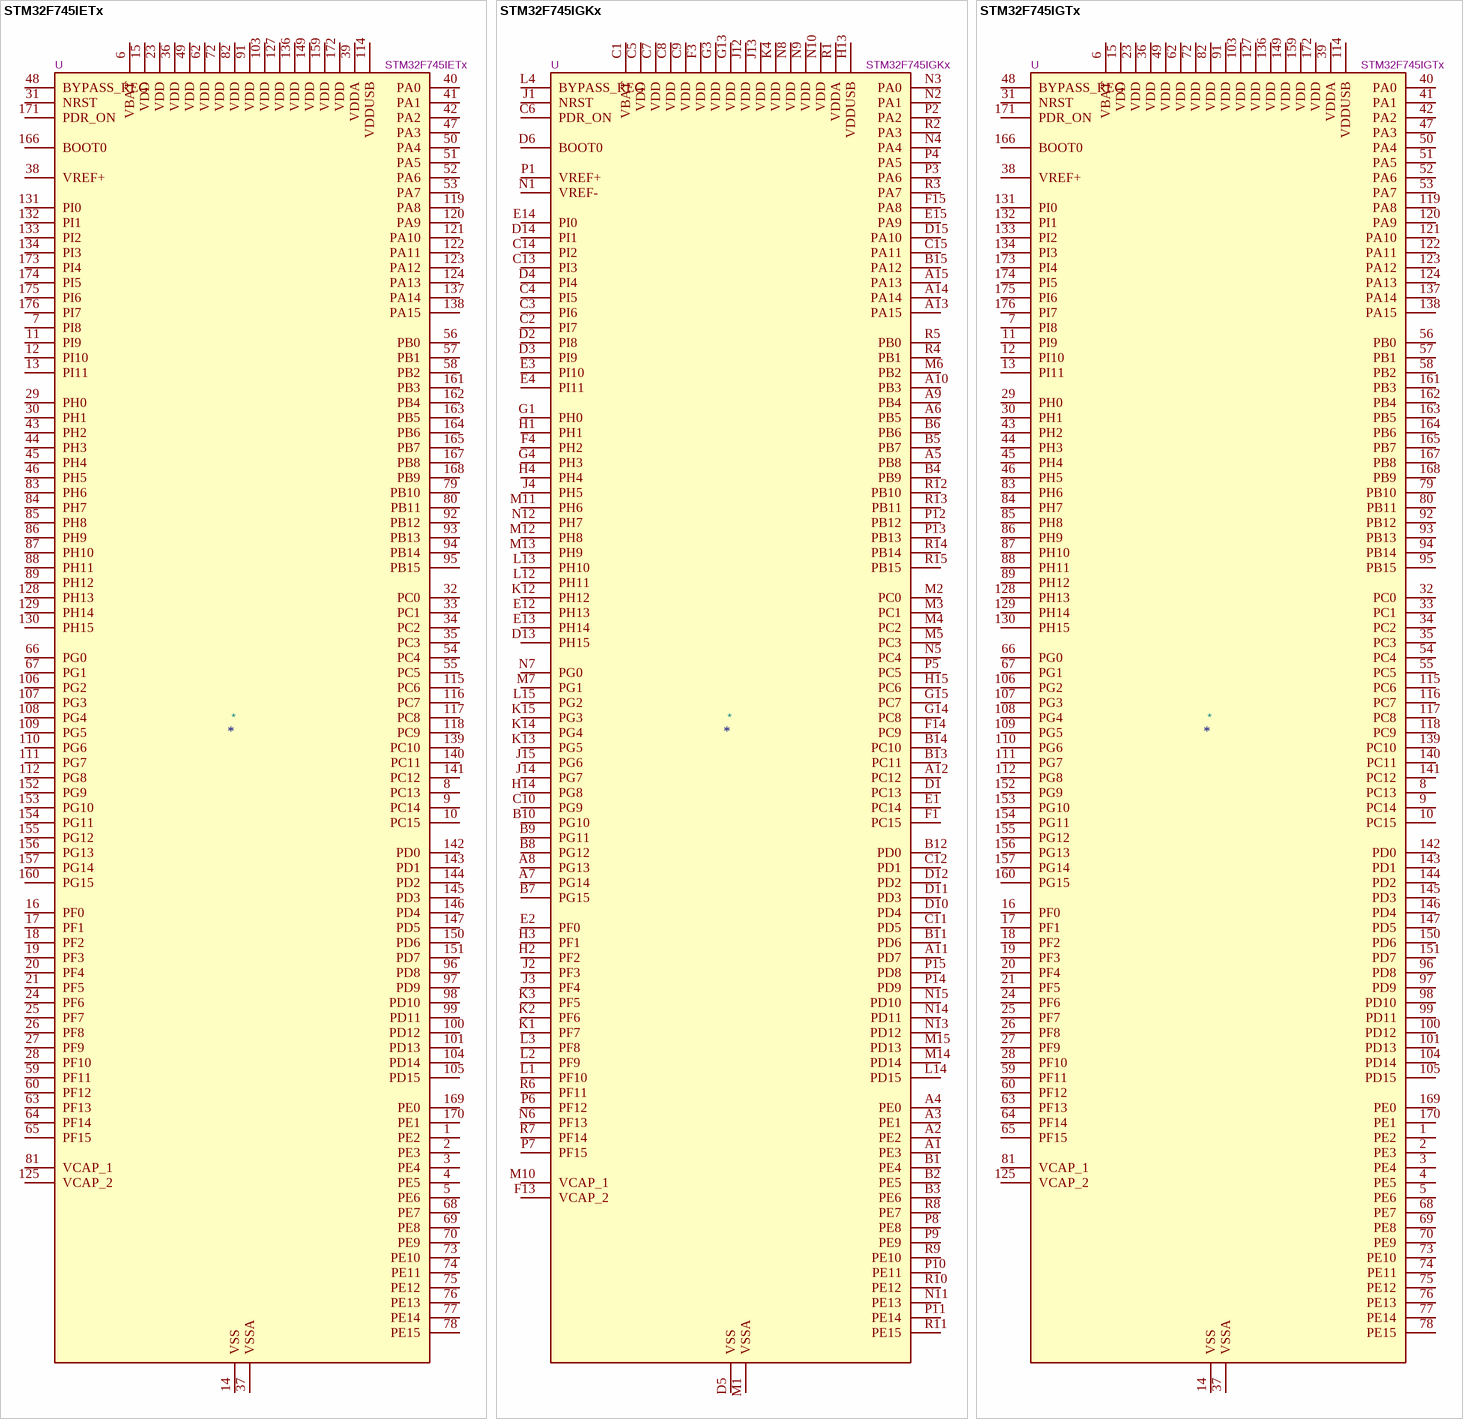
[diagram p15: symbols STM32F745IETx to STM32F745IGTx]

## STM32F745IETx
designator *  value STM32F745IETx  Reference: U
ki_keywords: Arm Cortex-M7 STM32F7 STM32F7x5; ki_description: STMicroelectronics Arm Cortex-M7 MCU, 512KB flash, 320KB RAM, 216 MHz, 1.7-3.6V, 140 GPIO, LQFP176; ki_fp_filters: LQFP*24x24mm*P0.5mm*; Footprint: Package_QFP:LQFP-176_24x24mm_P0.5mm; Datasheet: https://www.st.com/resource/en/datasheet/stm32f745ie.pdf
pins: 1 PE2, 2 PE3, 3 PE4, 4 PE5, 5 PE6, 6 VBAT, 7 PI8, 8 PC13, 9 PC14, 10 PC15, 11 PI9, 12 PI10, 13 PI11, 14 VSS, 15 VDD, 16 PF0, 17 PF1, 18 PF2, 19 PF3, 20 PF4, 21 PF5, 22 VSS hidden, 23 VDD, 24 PF6, 25 PF7, 26 PF8, 27 PF9, 28 PF10, 29 PH0, 30 PH1, 31 NRST, 32 PC0, 33 PC1, 34 PC2, 35 PC3, 36 VDD, 37 VSSA, 38 VREF+, 39 VDDA, 40 PA0, 41 PA1, 42 PA2, 43 PH2, 44 PH3, 45 PH4, 46 PH5, 47 PA3, 48 BYPASS_REG, 49 VDD, 50 PA4, 51 PA5, 52 PA6, 53 PA7, 54 PC4, 55 PC5, 56 PB0, 57 PB1, 58 PB2, 59 PF11, 60 PF12, 61 VSS hidden, 62 VDD, 63 PF13, 64 PF14, 65 PF15, 66 PG0, 67 PG1, 68 PE7, 69 PE8, 70 PE9, 71 VSS hidden, 72 VDD, 73 PE10, 74 PE11, 75 PE12, 76 PE13, 77 PE14, 78 PE15, 79 PB10, 80 PB11, 81 VCAP_1, 82 VDD, 83 PH6, 84 PH7, 85 PH8, 86 PH9, 87 PH10, 88 PH11, 89 PH12, 90 VSS hidden, 91 VDD, 92 PB12, 93 PB13, 94 PB14, 95 PB15, 96 PD8, 97 PD9, 98 PD10, 99 PD11, 100 PD12, 101 PD13, 102 VSS hidden, 103 VDD, 104 PD14, 105 PD15, 106 PG2, 107 PG3, 108 PG4, 109 PG5, 110 PG6, 111 PG7, 112 PG8, 113 VSS hidden, 114 VDDUSB, 115 PC6, 116 PC7, 117 PC8, 118 PC9, 119 PA8, 120 PA9, 121 PA10, 122 PA11, 123 PA12, 124 PA13, 125 VCAP_2, 126 VSS hidden, 127 VDD, 128 PH13, 129 PH14, 130 PH15, 131 PI0, 132 PI1, 133 PI2, 134 PI3, 135 VSS hidden, 136 VDD, 137 PA14, 138 PA15, 139 PC10, 140 PC11, 141 PC12, 142 PD0, 143 PD1, 144 PD2, 145 PD3, 146 PD4, 147 PD5, 148 VSS hidden, 149 VDD, 150 PD6, 151 PD7, 152 PG9, 153 PG10, 154 PG11, 155 PG12, 156 PG13, 157 PG14, 158 VSS hidden, 159 VDD, 160 PG15, 161 PB3, 162 PB4, 163 PB5, 164 PB6, 165 PB7, 166 BOOT0, 167 PB8, 168 PB9, 169 PE0, 170 PE1, 171 PDR_ON, 172 VDD, 173 PI4, 174 PI5, 175 PI6, 176 PI7

## STM32F745IGKx
designator *  value STM32F745IGKx  Reference: U
ki_keywords: Arm Cortex-M7 STM32F7 STM32F7x5; ki_description: STMicroelectronics Arm Cortex-M7 MCU, 1024KB flash, 320KB RAM, 216 MHz, 1.7-3.6V, 140 GPIO, UFBGA176; ki_fp_filters: *UFBGA*10x10mm*Layout15x15*P0.65mm*; Footprint: Package_BGA:UFBGA-201_10x10mm_Layout15x15_P0.65mm; Datasheet: https://www.st.com/resource/en/datasheet/stm32f745ig.pdf
pins: A1 PE3, A2 PE2, A3 PE1, A4 PE0, A5 PB8, A6 PB5, A7 PG14, A8 PG13, A9 PB4, A10 PB3, A11 PD7, A12 PC12, A13 PA15, A14 PA14, A15 PA13, B1 PE4, B2 PE5, B3 PE6, B4 PB9, B5 PB7, B6 PB6, B7 PG15, B8 PG12, B9 PG11, B10 PG10, B11 PD6, B12 PD0, B13 PC11, B14 PC10, B15 PA12, C1 VBAT, C2 PI7, C3 PI6, C4 PI5, C5 VDD, C6 PDR_ON, C7 VDD, C8 VDD, C9 VDD, C10 PG9, C11 PD5, C12 PD1, C13 PI3, C14 PI2, C15 PA11, D1 PC13, D2 PI8, D3 PI9, D4 PI4, D5 VSS, D6 BOOT0, D7 VSS hidden, D8 VSS hidden, D9 VSS hidden, D10 PD4, D11 PD3, D12 PD2, D13 PH15, D14 PI1, D15 PA10, E1 PC14, E2 PF0, E3 PI10, E4 PI11, E12 PH13, E13 PH14, E14 PI0, E15 PA9, F1 PC15, F2 VSS hidden, F3 VDD, F4 PH2, F6 VSS hidden, F7 VSS hidden, F8 VSS hidden, F9 VSS hidden, F10 VSS hidden, F12 VSS hidden, F13 VCAP_2, F14 PC9, F15 PA8, G1 PH0, G2 VSS hidden, G3 VDD, G4 PH3, G6 VSS hidden, G7 VSS hidden, G8 VSS hidden, G9 VSS hidden, G10 VSS hidden, G12 VSS hidden, G13 VDD, G14 PC8, G15 PC7, H1 PH1, H2 PF2, H3 PF1, H4 PH4, H6 VSS hidden, H7 VSS hidden, H8 VSS hidden, H9 VSS hidden, H10 VSS hidden, H12 VSS hidden, H13 VDDUSB, H14 PG8, H15 PC6, J1 NRST, J2 PF3, J3 PF4, J4 PH5, J6 VSS hidden, J7 VSS hidden, J8 VSS hidden, J9 VSS hidden, J10 VSS hidden, J12 VDD, J13 VDD, J14 PG7, J15 PG6, K1 PF7, K2 PF6, K3 PF5, K4 VDD, K6 VSS hidden, K7 VSS hidden, K8 VSS hidden, K9 VSS hidden, K10 VSS hidden, K12 PH12, K13 PG5, K14 PG4, K15 PG3, L1 PF10, L2 PF9, L3 PF8, L4 BYPASS_REG, L12 PH11, L13 PH10, L14 PD15, L15 PG2, M1 VSSA, M2 PC0, M3 PC1, M4 PC2, M5 PC3, M6 PB2, M7 PG1, M8 VSS hidden, M9 VSS hidden, M10 VCAP_1, M11 PH6, M12 PH8, M13 PH9, M14 PD14, M15 PD13, N1 VREF-, N2 PA1, N3 PA0, N4 PA4, N5 PC4, N6 PF13, N7 PG0, N8 VDD, N9 VDD, N10 VDD, N11 PE13, N12 PH7, N13 PD12, N14 PD11, N15 PD10, P1 VREF+, P2 PA2, P3 PA6, P4 PA5, P5 PC5, P6 PF12, P7 PF15, P8 PE8, P9 PE9, P10 PE11, P11 PE14, P12 PB12, P13 PB13, P14 PD9, P15 PD8, R1 VDDA, R2 PA3, R3 PA7, R4 PB1, R5 PB0, R6 PF11, R7 PF14, R8 PE7, R9 PE10, R10 PE12, R11 PE15, R12 PB10, R13 PB11, R14 PB14, R15 PB15

## STM32F745IGTx
designator *  value STM32F745IGTx  Reference: U
ki_keywords: Arm Cortex-M7 STM32F7 STM32F7x5; ki_description: STMicroelectronics Arm Cortex-M7 MCU, 1024KB flash, 320KB RAM, 216 MHz, 1.7-3.6V, 140 GPIO, LQFP176; ki_fp_filters: LQFP*24x24mm*P0.5mm*; Footprint: Package_QFP:LQFP-176_24x24mm_P0.5mm; Datasheet: https://www.st.com/resource/en/datasheet/stm32f745ig.pdf
pins: 1 PE2, 2 PE3, 3 PE4, 4 PE5, 5 PE6, 6 VBAT, 7 PI8, 8 PC13, 9 PC14, 10 PC15, 11 PI9, 12 PI10, 13 PI11, 14 VSS, 15 VDD, 16 PF0, 17 PF1, 18 PF2, 19 PF3, 20 PF4, 21 PF5, 22 VSS hidden, 23 VDD, 24 PF6, 25 PF7, 26 PF8, 27 PF9, 28 PF10, 29 PH0, 30 PH1, 31 NRST, 32 PC0, 33 PC1, 34 PC2, 35 PC3, 36 VDD, 37 VSSA, 38 VREF+, 39 VDDA, 40 PA0, 41 PA1, 42 PA2, 43 PH2, 44 PH3, 45 PH4, 46 PH5, 47 PA3, 48 BYPASS_REG, 49 VDD, 50 PA4, 51 PA5, 52 PA6, 53 PA7, 54 PC4, 55 PC5, 56 PB0, 57 PB1, 58 PB2, 59 PF11, 60 PF12, 61 VSS hidden, 62 VDD, 63 PF13, 64 PF14, 65 PF15, 66 PG0, 67 PG1, 68 PE7, 69 PE8, 70 PE9, 71 VSS hidden, 72 VDD, 73 PE10, 74 PE11, 75 PE12, 76 PE13, 77 PE14, 78 PE15, 79 PB10, 80 PB11, 81 VCAP_1, 82 VDD, 83 PH6, 84 PH7, 85 PH8, 86 PH9, 87 PH10, 88 PH11, 89 PH12, 90 VSS hidden, 91 VDD, 92 PB12, 93 PB13, 94 PB14, 95 PB15, 96 PD8, 97 PD9, 98 PD10, 99 PD11, 100 PD12, 101 PD13, 102 VSS hidden, 103 VDD, 104 PD14, 105 PD15, 106 PG2, 107 PG3, 108 PG4, 109 PG5, 110 PG6, 111 PG7, 112 PG8, 113 VSS hidden, 114 VDDUSB, 115 PC6, 116 PC7, 117 PC8, 118 PC9, 119 PA8, 120 PA9, 121 PA10, 122 PA11, 123 PA12, 124 PA13, 125 VCAP_2, 126 VSS hidden, 127 VDD, 128 PH13, 129 PH14, 130 PH15, 131 PI0, 132 PI1, 133 PI2, 134 PI3, 135 VSS hidden, 136 VDD, 137 PA14, 138 PA15, 139 PC10, 140 PC11, 141 PC12, 142 PD0, 143 PD1, 144 PD2, 145 PD3, 146 PD4, 147 PD5, 148 VSS hidden, 149 VDD, 150 PD6, 151 PD7, 152 PG9, 153 PG10, 154 PG11, 155 PG12, 156 PG13, 157 PG14, 158 VSS hidden, 159 VDD, 160 PG15, 161 PB3, 162 PB4, 163 PB5, 164 PB6, 165 PB7, 166 BOOT0, 167 PB8, 168 PB9, 169 PE0, 170 PE1, 171 PDR_ON, 172 VDD, 173 PI4, 174 PI5, 175 PI6, 176 PI7

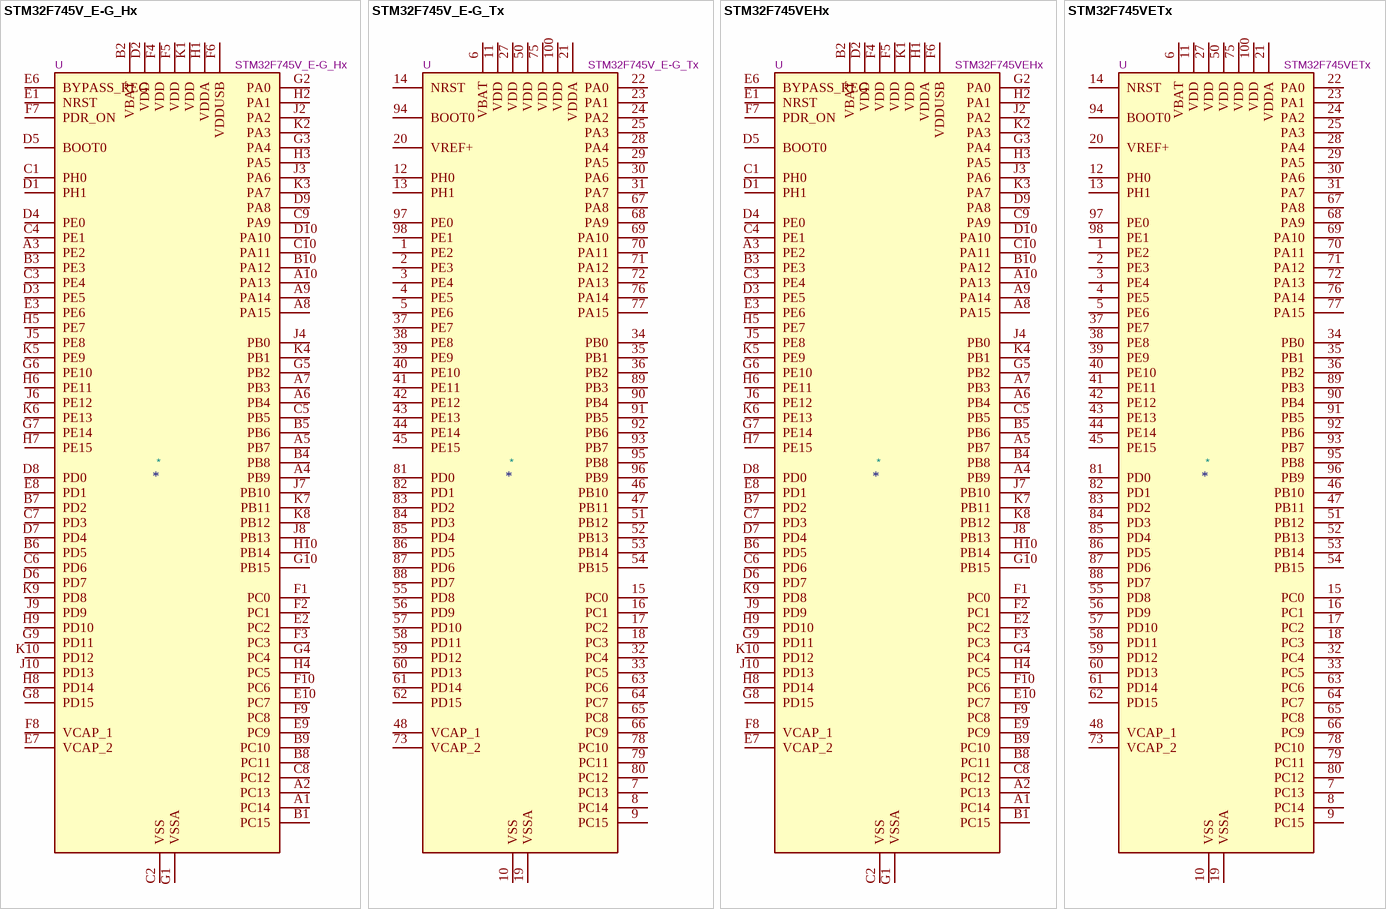
[diagram p16: symbols STM32F745V_E-G_Hx to STM32F745VETx]

## STM32F745V_E-G_Hx
designator *  value STM32F745V_E-G_Hx  Reference: U
ki_keywords: Arm Cortex-M7 STM32F7 STM32F7x5; ki_description: STMicroelectronics Arm Cortex-M7 MCU, 512-1024KB flash, 320KB RAM, 216 MHz, 1.7-3.6V, 82 GPIO, TFBGA100; ki_fp_filters: TFBGA*8x8mm*Layout10x10*P0.8mm*; Footprint: Package_BGA:TFBGA-100_8x8mm_Layout10x10_P0.8mm; Datasheet: https://www.st.com/resource/en/datasheet/stm32f745ve.pdf
pins: A1 PC14, A2 PC13, A3 PE2, A4 PB9, A5 PB7, A6 PB4, A7 PB3, A8 PA15, A9 PA14, A10 PA13, B1 PC15, B2 VBAT, B3 PE3, B4 PB8, B5 PB6, B6 PD5, B7 PD2, B8 PC11, B9 PC10, B10 PA12, C1 PH0, C2 VSS, C3 PE4, C4 PE1, C5 PB5, C6 PD6, C7 PD3, C8 PC12, C9 PA9, C10 PA11, D1 PH1, D2 VDD, D3 PE5, D4 PE0, D5 BOOT0, D6 PD7, D7 PD4, D8 PD0, D9 PA8, D10 PA10, E1 NRST, E2 PC2, E3 PE6, E4 VSS hidden, E5 VSS hidden, E6 BYPASS_REG, E7 VCAP_2, E8 PD1, E9 PC9, E10 PC7, F1 PC0, F2 PC1, F3 PC3, F4 VDD, F5 VDD, F6 VDDUSB, F7 PDR_ON, F8 VCAP_1, F9 PC8, F10 PC6, G1 VSSA, G2 PA0, G3 PA4, G4 PC4, G5 PB2, G6 PE10, G7 PE14, G8 PD15, G9 PD11, G10 PB15, H1 VDDA, H2 PA1, H3 PA5, H4 PC5, H5 PE7, H6 PE11, H7 PE15, H8 PD14, H9 PD10, H10 PB14, J1 VSS hidden, J2 PA2, J3 PA6, J4 PB0, J5 PE8, J6 PE12, J7 PB10, J8 PB13, J9 PD9, J10 PD13, K1 VDD, K2 PA3, K3 PA7, K4 PB1, K5 PE9, K6 PE13, K7 PB11, K8 PB12, K9 PD8, K10 PD12